# Altium integrated library Texas Instruments.IntLib: 126 symbols (part 1 of 2)
Pins are listed as number, name and electrical type; pins without a type are passive.

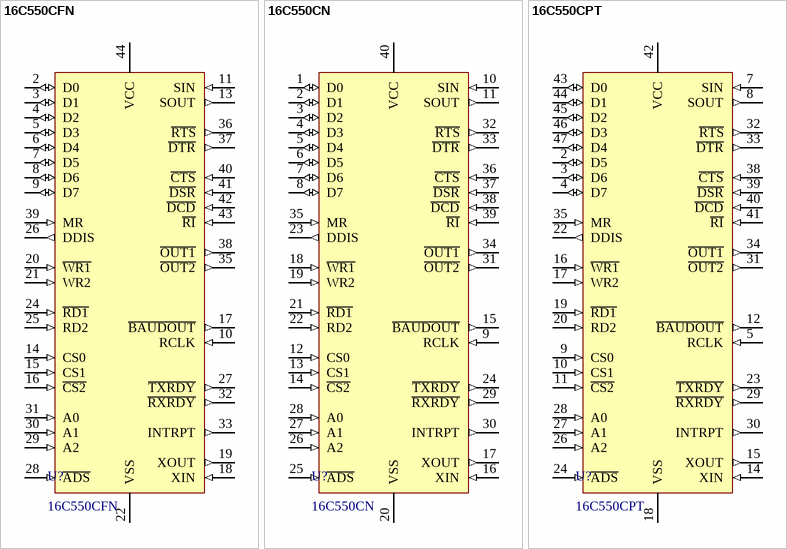
[diagram p0: symbols 16C550CFN to 16C550CPT]

## 16C550CFN
designator U?
Asynchronous Communications Element without Autoflow Control
footprint PLCC44
pins: 2 D0 (io), 3 D1 (io), 4 D2 (io), 5 D3 (io), 6 D4 (io), 7 D5 (io), 8 D6 (io), 9 D7 (io), 10 RCLK (in), 11 SIN (in), 13 SOUT (out), 14 CS0 (in), 15 CS1 (in), 16 ~{CS2} (in), 17 ~{BAUDOUT} (out), 18 XIN (in), 19 XOUT (out), 20 ~{WR1} (in), 21 WR2 (in), 22 VSS (power), 24 ~{RD1} (in), 25 RD2 (in), 26 DDIS (out), 27 ~{TXRDY} (out), 28 ~{ADS} (in), 29 A2 (in), 30 A1 (in), 31 A0 (in), 32 ~{RXRDY} (out), 33 INTRPT (out), 35 ~{OUT2} (out), 36 ~{RTS} (out), 37 ~{DTR} (out), 38 ~{OUT1} (out), 39 MR (in), 40 ~{CTS} (in), 41 ~{DSR} (in), 42 ~{DCD} (in), 43 ~{RI} (in), 44 VCC (power)

## 16C550CN
designator U?
Asynchronous Communications Element without Autoflow Control
footprint PDIP40
pins: 1 D0 (io), 2 D1 (io), 3 D2 (io), 4 D3 (io), 5 D4 (io), 6 D5 (io), 7 D6 (io), 8 D7 (io), 9 RCLK (in), 10 SIN (in), 11 SOUT (out), 12 CS0 (in), 13 CS1 (in), 14 ~{CS2} (in), 15 ~{BAUDOUT} (out), 16 XIN (in), 17 XOUT (out), 18 ~{WR1} (in), 19 WR2 (in), 20 VSS (power), 21 ~{RD1} (in), 22 RD2 (in), 23 DDIS (out), 24 ~{TXRDY} (out), 25 ~{ADS} (in), 26 A2 (in), 27 A1 (in), 28 A0 (in), 29 ~{RXRDY} (out), 30 INTRPT (out), 31 ~{OUT2} (out), 32 ~{RTS} (out), 33 ~{DTR} (out), 34 ~{OUT1} (out), 35 MR (in), 36 ~{CTS} (in), 37 ~{DSR} (in), 38 ~{DCD} (in), 39 ~{RI} (in), 40 VCC (power)

## 16C550CPT
designator U?
Asynchronous Communications Element without Autoflow Control
footprint LQFP48 - TL16C550CPT
pins: 2 D5 (io), 3 D6 (io), 4 D7 (io), 5 RCLK (in), 7 SIN (in), 8 SOUT (out), 9 CS0 (in), 10 CS1 (in), 11 ~{CS2} (in), 12 ~{BAUDOUT} (out), 14 XIN (in), 15 XOUT (out), 16 ~{WR1} (in), 17 WR2 (in), 18 VSS (power), 19 ~{RD1} (in), 20 RD2 (in), 22 DDIS (out), 23 ~{TXRDY} (out), 24 ~{ADS} (in), 26 A2 (in), 27 A1 (in), 28 A0 (in), 29 ~{RXRDY} (out), 30 INTRPT (out), 31 ~{OUT2} (out), 32 ~{RTS} (out), 33 ~{DTR} (out), 34 ~{OUT1} (out), 35 MR (in), 38 ~{CTS} (in), 39 ~{DSR} (in), 40 ~{DCD} (in), 41 ~{RI} (in), 42 VCC (power), 43 D0 (io), 44 D1 (io), 45 D2 (io), 46 D3 (io), 47 D4 (io)


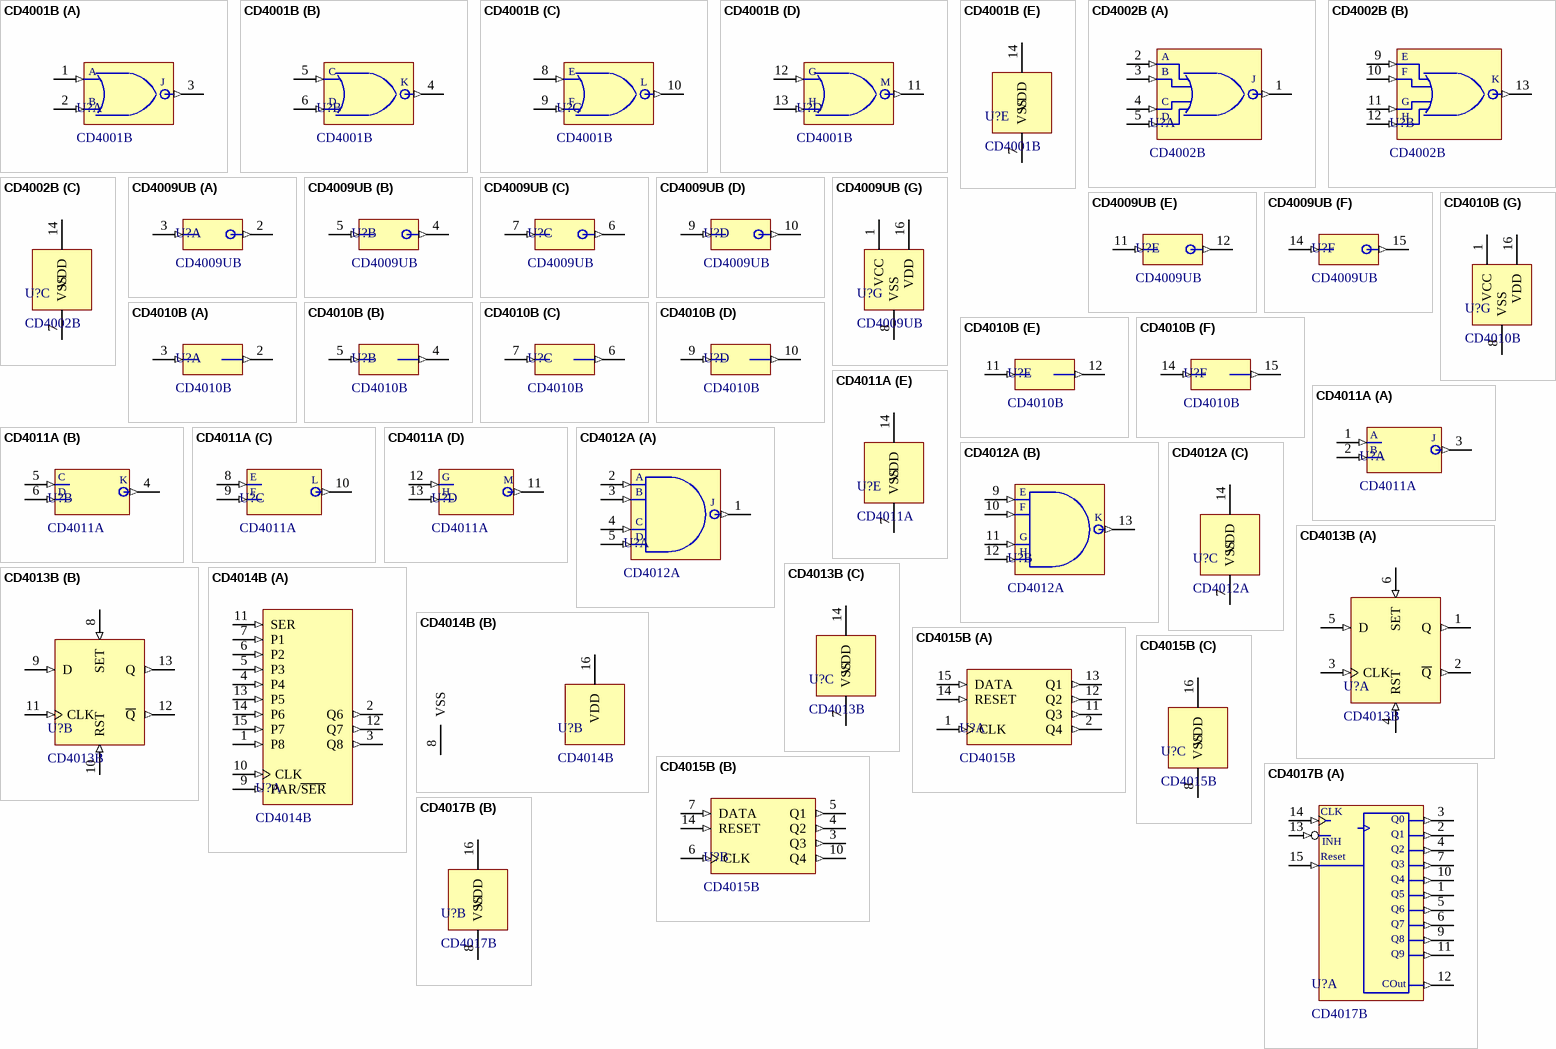
[diagram p1: symbols CD4001B to CD4017B]

## CD4001B
designator U?
Quad 2-Input CMOS NOR Gates
footprint CDIP14
footprint SOIC14
part A pins: 1 A (in), 2 B (in), 3 J (out)
part B pins: 4 K (out), 5 C (in), 6 D (in)
part C pins: 8 E (in), 9 F (in), 10 L (out)
part D pins: 11 M (out), 12 G (in), 13 H (in)
part E pins: 7 VSS (power), 14 VDD (power)

## CD4002B
designator U?
Dual 4-Input CMOS NOR Gates
footprint CDIP14
footprint SOIC14
part A pins: 1 J (out), 2 A (in), 3 B (in), 4 C (in), 5 D (in)
part B pins: 9 E (in), 10 F (in), 11 G (in), 12 H (in), 13 K (out)
part C pins: 7 VSS (power), 14 VDD (power)

## CD4009UB
designator U?
CMOS Hex Buffers/Converters Inverting Type
footprint PDIP16
footprint SOIC16
footprint TSSOP16
part A pins: 2 Y (out), 3 A (in)
part B pins: 4 Y (out), 5 A (in)
part C pins: 6 Y (out), 7 A (in)
part D pins: 9 A (in), 10 Y (out)
part E pins: 11 A (in), 12 Y (out)
part F pins: 14 A (in), 15 Y (out)
part G pins: 1 VCC (power), 8 VSS (power), 16 VDD (power)

## CD4010B
designator U?
CMOS Hex Buffers/Converters Non-Inverting Type
footprint PDIP16
footprint SOIC16
footprint TSSOP16
part A pins: 2 Y (out), 3 A (in)
part B pins: 4 Y (out), 5 A (in)
part C pins: 6 Y (out), 7 A (in)
part D pins: 9 A (in), 10 Y (out)
part E pins: 11 A (in), 12 Y (out)
part F pins: 14 A (in), 15 Y (out)
part G pins: 1 VCC (power), 8 VSS (power), 16 VDD (power)

## CD4011A
designator U?
Quad 2-Input CMOS NAND Gates
footprint CDIP14
footprint SOIC14
footprint TSSOP14
part A pins: 1 A (in), 2 B (in), 3 J (out)
part B pins: 4 K (out), 5 C (in), 6 D (in)
part C pins: 8 E (in), 9 F (in), 10 L (out)
part D pins: 11 M (out), 12 G (in), 13 H (in)
part E pins: 7 VSS (power), 14 VDD (power)

## CD4012A
designator U?
Dual 4-Input CMOS NAND Gates
footprint CDIP14
footprint SOIC14
footprint TSSOP14
part A pins: 1 J (out), 2 A (in), 3 A (in), 4 C (in), 5 D (in)
part B pins: 9 E (in), 10 F (in), 11 G (in), 12 H (in), 13 K (out)
part C pins: 7 VSS (power), 14 VDD (power)
part A text: B

## CD4013B
designator U?
CMOS Dual D-Type Flip-Flop
footprint CDIP14
footprint SOIC14
footprint TSSOP14
part A pins: 1 Q (out), 2 ~{Q} (out), 3 CLK (in), 4 RST (in), 5 D (in), 6 SET (in)
part B pins: 8 SET (in), 9 D (in), 10 RST (in), 11 CLK (in), 12 ~{Q} (out), 13 Q (out)
part C pins: 7 VSS (power), 14 VDD (power)

## CD4014B
designator U?
CMOS 8-Stage Static Shift Registers
footprint PDIP16
footprint SOIC16
footprint TSSOP16
part A pins: 1 P8 (in), 2 Q6 (out), 3 Q8 (out), 4 P4 (in), 5 P3 (in), 6 P2 (in), 7 P1 (in), 9 PAR/~{SER} (in), 10 CLK (in), 11 SER (in), 12 Q7 (out), 13 P5 (in), 14 P6 (in), 15 P7 (in)
part B pins: 8 VSS (power), 16 VDD (power)

## CD4015B
designator U?
CMOS Dual 4-Stage Static Shift Register
footprint PDIP16
footprint SOIC16
footprint TSSOP16
part A pins: 1 CLK (in) "Clock", 2 Q4 (out), 11 Q3 (out), 12 Q2 (out), 13 Q1 (out), 14 RESET (in) "Clock Inhibit", 15 DATA (in) "Reset"
part B pins: 3 Q3 (out), 4 Q2 (out), 5 Q1 (out), 6 CLK (in) "Clock", 7 DATA (in) "Reset", 10 Q4 (out), 14 RESET (in) "Clock Inhibit"
part C pins: 8 VSS (power), 16 VDD (power)

## CD4017B
designator U?
Decade Counter with 10 Decoded Outputs
footprint PDIP16
footprint SOIC16
footprint TSSOP16
part A pins: 1 Q5 (out), 2 Q1 (out), 3 Q0 (out), 4 Q2 (out), 5 Q6 (out), 6 Q7 (out), 7 Q3 (out), 9 Q8 (out), 10 Q4 (out), 11 Q9 (out), 12 COUT (out) "Carry Out", 13 CLKINH (in) "Clock Inhibit", 14 CLK (in) "Clock", 15 RST (in) "Reset"
part B pins: 8 VSS (power), 16 VDD (power)
part A text: INH; Reset; COut

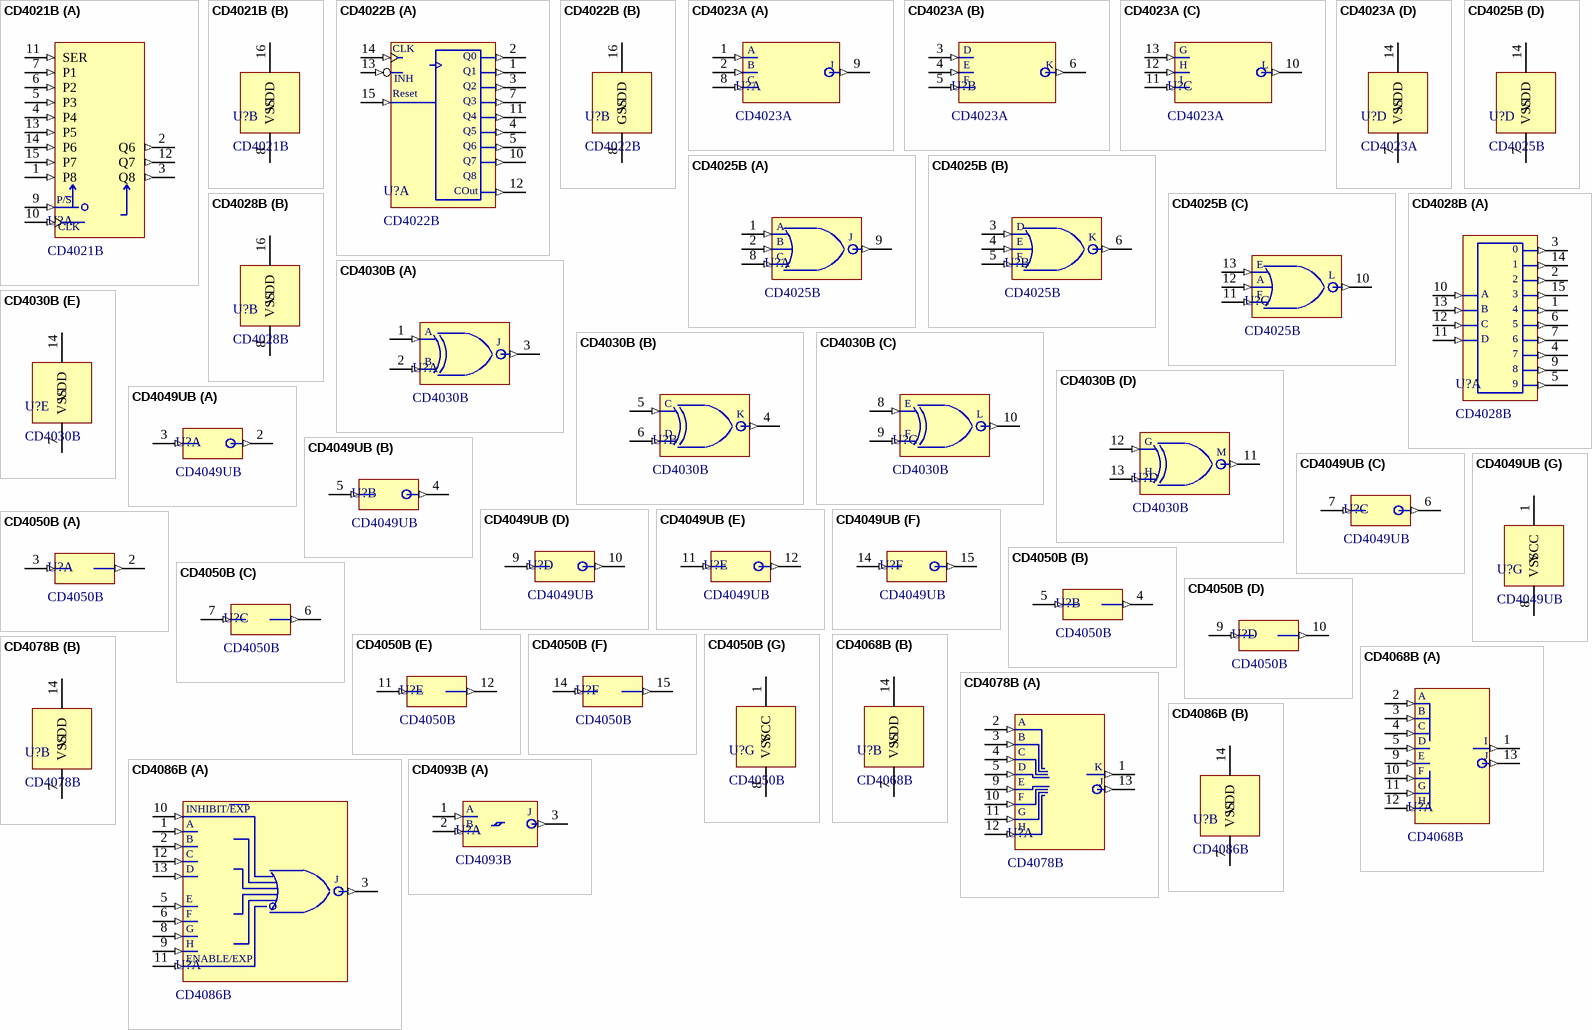
[diagram p2: symbols CD4021B to CD4093B]

## CD4021B
designator U?
CMOS 8-Stage Static Shift Registers
footprint PDIP16
footprint SOIC16
footprint TSSOP16
part A pins: 1 P8 (in), 2 Q6 (out), 3 Q8 (out), 4 P4 (in), 5 P3 (in), 6 P2 (in), 7 P1 (in), 9 PAR/~{SER} (in), 10 CLK (in), 11 SER (in), 12 Q7 (out), 13 P5 (in), 14 P6 (in), 15 P7 (in)
part B pins: 8 VSS (power), 16 VDD (power)
part A text: P/S

## CD4022B
designator U?
Octal Counter with 8 Decoded Outputs
footprint PDIP16
footprint SOIC16
footprint TSSOP16
part A pins: 1 Q1 (out), 2 Q0 (out), 3 Q2 (out), 4 Q5 (out), 5 Q6 (out), 7 Q3 (out), 10 Q7 (out), 11 Q4 (out), 12 COUT (out) "Carry Out", 13 CLKINH (in) "Clock Inhibit", 14 CLK (in) "Clock", 15 RST (in) "Reset"
part B pins: 8 GSS (power), 16 VDD (power)
part A text: INH; Reset; Q8; COut

## CD4023A
designator U?
Triple 3-Input CMOS NAND Gates
footprint CDIP14
footprint SOIC14
footprint TSSOP14
part A pins: 1 A (in), 2 B (in), 8 C (in), 9 J (out)
part B pins: 3 D (in), 4 E (in), 5 F (in), 6 K (out)
part C pins: 10 L (out), 11 I (in), 12 H (in), 13 G (in)
part D pins: 7 VSS (power), 14 VDD (power)

## CD4025B
designator U?
Triple 3-Input CMOS NOR Gates
footprint CDIP14
footprint SOIC14
part A pins: 1 A (in), 2 B (in), 8 C (in), 9 J (out)
part B pins: 3 D (in), 4 E (in), 5 F (in), 6 K (out)
part C pins: 10 L (out), 11 I (in), 12 H (in), 13 G (in)
part D pins: 7 VSS (power), 14 VDD (power)

## CD4028B
designator U?
BCD-to-Decimal Decoder
footprint PDIP16
footprint SOIC16
footprint TSSOP16
part A pins: 1 4 (out), 2 (out), 3 0 (out), 4 7 (out), 5 9 (out), 6 5 (out), 7 6 (out), 9 8 (out), 10 A (in), 11 D (in), 12 C (in), 13 B (in), 14 1 (out), 15 3 (out)
part B pins: 8 VSS (power), 16 VDD (power)

## CD4030B
designator U?
Quad 2-Input CMOS Exclusive-OR Gate
footprint CDIP14
footprint SOIC14
footprint TSSOP14
part A pins: 1 A (in), 2 B (in), 3 J (out)
part B pins: 4 K (out), 5 C (in), 6 D (in)
part C pins: 8 E (in), 9 F (in), 10 L (out)
part D pins: 11 M (out), 12 G (in), 13 H (in)
part E pins: 7 VSS (power), 14 VDD (power)

## CD4049UB
designator U?
CMOS Hex Buffers/Converters Inverting Type
footprint PDIP16
footprint SOIC16
footprint TSSOP16
part A pins: 2 Y (out), 3 A (in)
part B pins: 4 Y (out), 5 A (in)
part C pins: 6 Y (out), 7 A (in)
part D pins: 9 A (in), 10 Y (out)
part E pins: 11 A (in), 12 Y (out)
part F pins: 14 A (in), 15 Y (out)
part G pins: 1 VCC (power), 8 VSS (power)

## CD4050B
designator U?
CMOS Hex Buffers/Converters Non-Inverting Type
footprint PDIP16
footprint SOIC16
footprint TSSOP16
part A pins: 2 Y (out), 3 A (in)
part B pins: 4 Y (out), 5 A (in)
part C pins: 6 Y (out), 7 A (in)
part D pins: 9 A (in), 10 Y (out)
part E pins: 11 A (in), 12 Y (out)
part F pins: 14 A (in), 15 Y (out)
part G pins: 1 VCC (power), 8 VSS (power)

## CD4068B
designator U?
CMOS 8-Input NAND/AND Gate
footprint CDIP14
footprint SOIC14
footprint TSSOP14
part A pins: 1 I (out), 2 A (in), 3 B (in), 4 C (in), 5 D (in), 9 E (in), 10 F (in), 11 G (in), 12 H (in), 13 J (out)
part B pins: 7 VSS (power), 14 VDD (power)

## CD4078B
designator U?
CMOS 8-Input NOR/OR Gate
footprint CDIP14
footprint SOIC14
footprint TSSOP14
part A pins: 1 K (out), 2 A (in), 3 B (in), 4 C (in), 5 D (in), 9 E (in), 10 F (in), 11 G (in), 12 H (in), 13 J (out)
part B pins: 7 VSS (power), 14 VDD (power)

## CD4086B
designator U?
CMOS Expandable 4-Wide 2-Input AND-OR-INVERT Gate
footprint CDIP14
footprint SOIC14
part A pins: 1 A (in), 2 B (in), 3 J (out), 5 E (in), 6 F (in), 8 G (in), 9 H (in), 10 INHIBIT/~{EXP} (in), 11 ENABLE/EXP (in), 12 C (in), 13 D (in)
part B pins: 7 VSS (power), 14 VDD (power)
part A text: INHIBIT/EXP

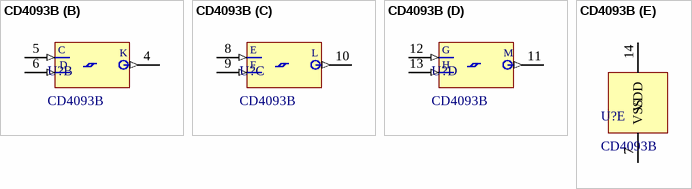
[diagram p3: symbol CD4093B]

## CD4093B
designator U?
CMOS Quad 2 Input NAND Schmitt-Triggers
footprint CDIP14
footprint SOIC14
footprint TSSOP14
part A pins: 1 A (in), 2 B (in), 3 J (out)
part B pins: 4 K (out), 5 C (in), 6 D (in)
part C pins: 8 E (in), 9 F (in), 10 L (out)
part D pins: 11 M (out), 12 G (in), 13 H (in)
part E pins: 7 VSS (power), 14 VDD (power)


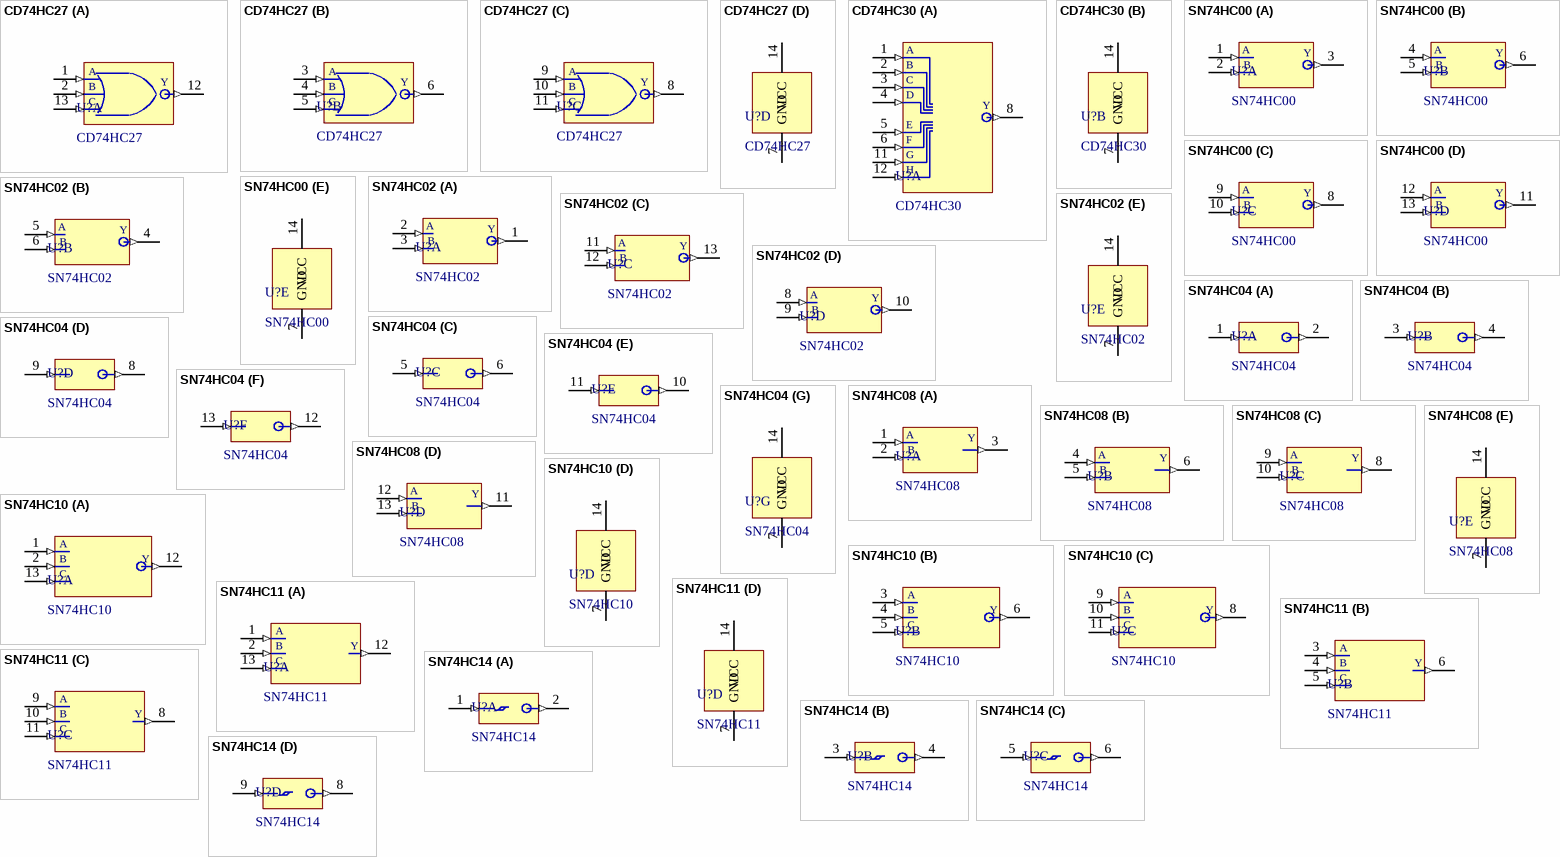
[diagram p4: symbols CD74HC27 to SN74HC14]

## CD74HC27
designator U?
Triple 3-Input NOR Gate
footprint CDIP14
footprint SOIC14
part A pins: 1 A (in), 2 B (in), 12 Y (out), 13 C (in)
part B pins: 3 A (in), 4 B (in), 5 C (in), 6 Y (out)
part C pins: 8 Y (out), 9 A (in), 10 B (in), 11 C (in)
part D pins: 7 GND (power), 14 VCC (power)

## CD74HC30
designator U?
8-Input NAND Gate
footprint CDIP14
footprint SOIC14
footprint TSSOP14
part A pins: 1 A (in), 2 B (in), 3 C (in), 4 D (in), 5 E (in), 6 F (in), 8 Y (out), 11 G (in), 12 H (in)
part B pins: 7 GND (power), 14 VCC (power)

## SN74HC00
designator U?
Quadruple 2-Input Positive-NAND Gates
footprint CDIP14
footprint SOIC14
footprint TSSOP14
part A pins: 1 A (in), 2 B (in), 3 Y (out)
part B pins: 4 A (in), 5 B (in), 6 Y (out)
part C pins: 8 Y (out), 9 A (in), 10 B (in)
part D pins: 11 Y (out), 12 A (in), 13 B (in)
part E pins: 7 GND (power), 14 VCC (power)

## SN74HC02
designator U?
Quadruple 2-Input Positive-NOR Gates
footprint CDIP14
footprint SOIC14
footprint TSSOP14
part A pins: 1 Y (out), 2 A (in), 3 B (in)
part B pins: 4 Y (out), 5 A (in), 6 B (in)
part C pins: 11 A (in), 12 B (in), 13 Y (out)
part D pins: 8 A (in), 9 B (in), 10 Y (out)
part E pins: 7 GND (power), 14 VCC (power)

## SN74HC04
designator U?
Hex Inverters
footprint CDIP14
footprint SOIC14
footprint TSSOP14
part A pins: 1 A (in), 2 Y (out)
part B pins: 3 A (in), 4 Y (out)
part C pins: 5 A (in), 6 Y (out)
part D pins: 8 Y (out), 9 A (in)
part E pins: 10 Y (out), 11 A (in)
part F pins: 12 Y (out), 13 A (in)
part G pins: 7 GND (power), 14 VCC (power)

## SN74HC08
designator U?
Quadruple 2-Input Positive-AND Gates
footprint CDIP14
footprint SOIC14
footprint TSSOP14
part A pins: 1 A (in), 2 B (in), 3 Y (out)
part B pins: 4 A (in), 5 B (in), 6 Y (out)
part C pins: 8 Y (out), 9 A (in), 10 B (in)
part D pins: 11 Y (out), 12 A (in), 13 B (in)
part E pins: 7 GND (power), 14 VCC (power)

## SN74HC10
designator U?
Triple 3-Input Positive-NAND Gates
footprint CDIP14
footprint SOIC14
footprint TSSOP14
part A pins: 1 A (in), 2 B (in), 12 Y (out), 13 C (in)
part B pins: 3 A (in), 4 B (in), 5 C (in), 6 Y (out)
part C pins: 8 Y (out), 9 A (in), 10 B (in), 11 C (in)
part D pins: 7 GND (power), 14 VCC (power)

## SN74HC11
designator U?
Triple 3-Input Positive-AND Gates
footprint CDIP14
footprint SOIC14
footprint TSSOP14
part A pins: 1 A (in), 2 B (in), 12 Y (out), 13 C (in)
part B pins: 3 A (in), 4 B (in), 5 C (in), 6 Y (out)
part C pins: 8 Y (out), 9 A (in), 10 B (in), 11 C (in)
part D pins: 7 GND (power), 14 VCC (power)

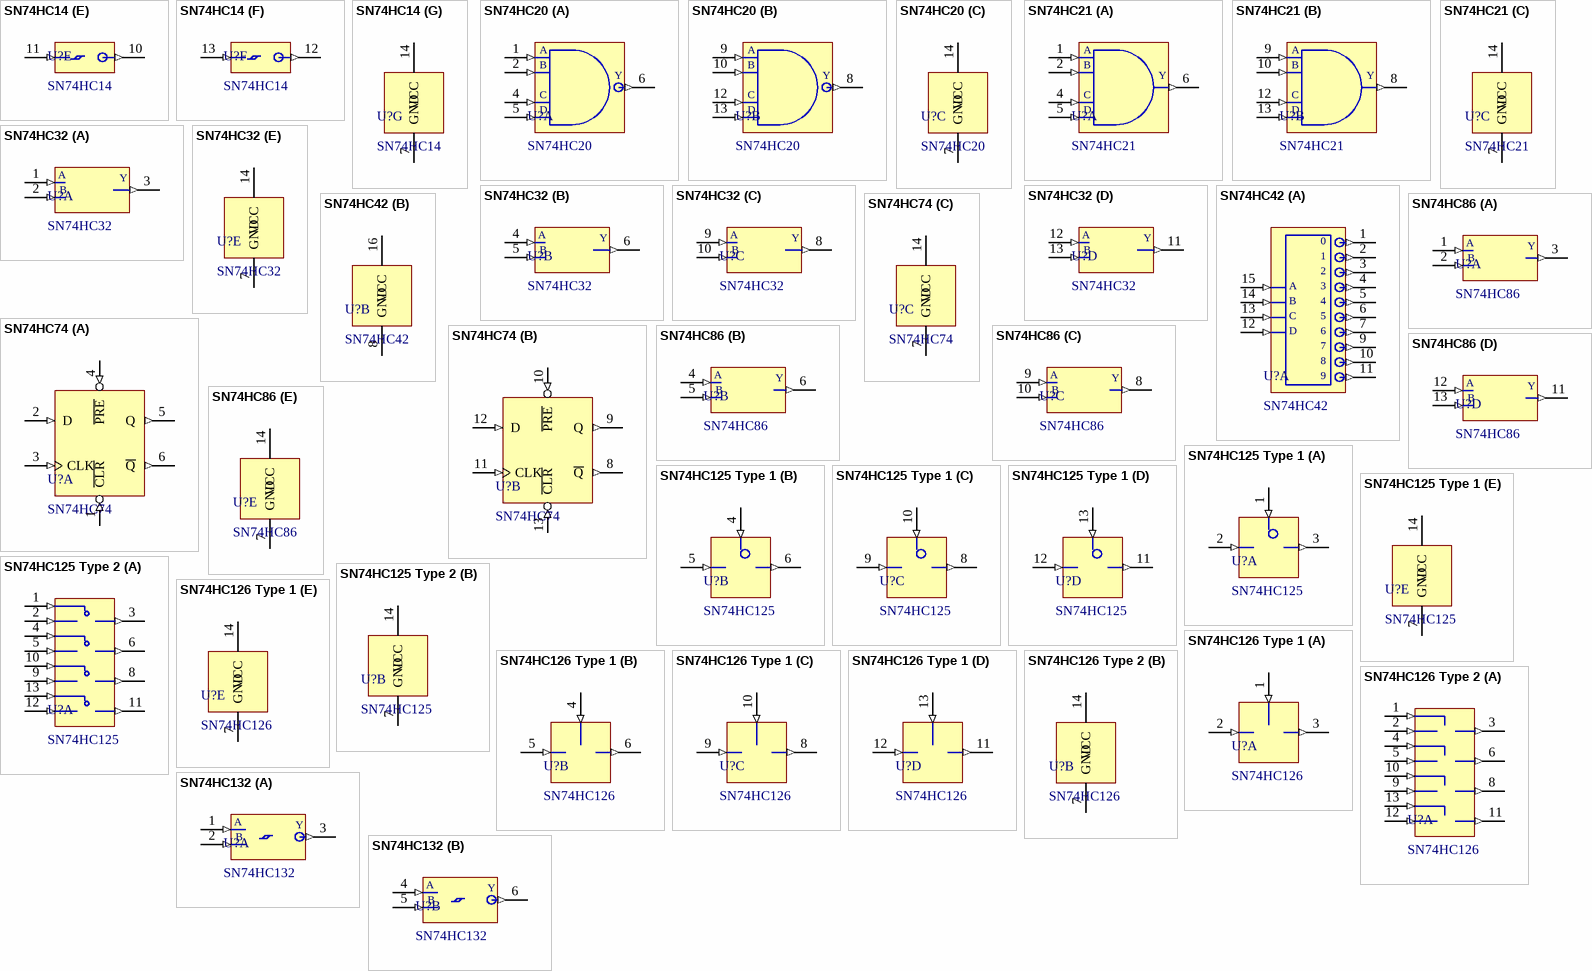
[diagram p5: symbols SN74HC14 to SN74HC132]

## SN74HC14
designator U?
Hex Schmitt-Trigger Inverters
footprint CDIP14
footprint SOIC14
footprint TSSOP14
part A pins: 1 A (in), 2 Y (out)
part B pins: 3 A (in), 4 Y (out)
part C pins: 5 A (in), 6 Y (out)
part D pins: 8 Y (out), 9 A (in)
part E pins: 10 Y (out), 11 A (in)
part F pins: 12 Y (out), 13 A (in)
part G pins: 7 GND (power), 14 VCC (power)

## SN74HC20
designator U?
Dual 4-Input Positive-NAND Gates
footprint CDIP14
footprint SOIC14
footprint TSSOP14
part A pins: 1 A (in), 2 A (in), 4 C (in), 5 D (in), 6 Y (out)
part B pins: 8 Y (out), 9 A (in), 10 A (in), 12 C (in), 13 D (in)
part C pins: 7 GND (power), 14 VCC (power)
part A text: B
part B text: B

## SN74HC21
designator U?
Dual 4-Input Positive-AND Gates
footprint CDIP14
footprint SOIC14
footprint TSSOP14
part A pins: 1 A (in), 2 A (in), 4 C (in), 5 D (in), 6 Y (out)
part B pins: 8 Y (out), 9 A (in), 10 A (in), 12 C (in), 13 D (in)
part C pins: 7 GND (power), 14 VCC (power)
part A text: B
part B text: B

## SN74HC32
designator U?
Quadruple 2-Input Positive-OR Gates
footprint CDIP14
footprint SOIC14
footprint TSSOP14
part A pins: 1 A (in), 2 B (in), 3 Y (out)
part B pins: 4 A (in), 5 B (in), 6 Y (out)
part C pins: 8 Y (out), 9 A (in), 10 B (in)
part D pins: 11 Y (out), 12 A (in), 13 B (in)
part E pins: 7 GND (power), 14 VCC (power)

## SN74HC42
designator U?
4-Lines to 10-Lines Decoder
footprint PDIP16
footprint SOIC16
part A pins: 1 0 (out), 2 1 (out), 3 2 (out), 4 3 (out), 5 4 (out), 6 5 (out), 7 6 (out), 9 7 (out), 10 8 (out), 11 9 (out), 12 D (in), 13 C (in), 14 B (in), 15 A (in)
part B pins: 8 GND (power), 16 VCC (power)

## SN74HC74
designator U?
Dual D-Type Positive-Edge-Triggered Flip-Flops With Clear and Preset
footprint CDIP14
footprint SOIC14
footprint TSSOP14
part A pins: 1 ~{CLR} (in), 2 D (in), 3 CLK (in), 4 ~{PRE} (in), 5 Q (out), 6 ~{Q} (out)
part B pins: 8 ~{Q} (out), 9 Q (out), 10 ~{PRE} (in), 11 CLK (in), 12 D (in), 13 ~{CLR} (in)
part C pins: 7 GND (power), 14 VCC (power)

## SN74HC86
designator U?
Quadruple 2-Input Exclusive-OR Gates
footprint CDIP14
footprint SOIC14
footprint TSSOP14
part A pins: 1 A (in), 2 B (in), 3 Y (out)
part B pins: 4 A (in), 5 B (in), 6 Y (out)
part C pins: 8 Y (out), 9 A (in), 10 B (in)
part D pins: 11 Y (out), 12 A (in), 13 B (in)
part E pins: 7 GND (power), 14 VCC (power)

## SN74HC125 Type 1
designator U?, comment SN74HC125
Quadruple Bus Buffer Gates With 3-State Outputs
footprint CDIP14
footprint SOIC14
footprint TSSOP14
part A pins: 1 ~{OE} (in), 2 A (in), 3 Y (out)
part B pins: 4 ~{OE} (in), 5 A (in), 6 Y (out)
part C pins: 8 Y (out), 9 A (in), 10 ~{OE} (in)
part D pins: 11 Y (out), 12 A (in), 13 ~{OE} (in)
part E pins: 7 GND (power), 14 VCC (power)

## SN74HC125 Type 2
designator U?, comment SN74HC125
Quadruple Bus Buffer Gates With 3-State Outputs
footprint CDIP14
footprint SOIC14
footprint TSSOP14
part A pins: 1 ~{OE} (in), 2 A (in), 3 Y (out), 4 ~{OE} (in), 5 A (in), 6 Y (out), 8 Y (out), 9 A (in), 10 ~{OE} (in), 11 Y (out), 12 A (in), 13 ~{OE} (in)
part B pins: 7 GND (power), 14 VCC (power)

## SN74HC126 Type 1
designator U?, comment SN74HC126
Quadruple Bus Buffer Gates With 3-State Outputs
footprint CDIP14
footprint SOIC14
footprint TSSOP14
part A pins: 1 ~{OE} (in), 2 A (in), 3 Y (out)
part B pins: 4 ~{OE} (in), 5 A (in), 6 Y (out)
part C pins: 8 Y (out), 9 A (in), 10 ~{OE} (in)
part D pins: 11 Y (out), 12 A (in), 13 ~{OE} (in)
part E pins: 7 GND (power), 14 VCC (power)

## SN74HC126 Type 2
designator U?, comment SN74HC126
Quadruple Bus Buffer Gates With 3-State Outputs
footprint CDIP14
footprint SOIC14
footprint TSSOP14
part A pins: 1 ~{OE} (in), 2 A (in), 3 Y (out), 4 ~{OE} (in), 5 A (in), 6 Y (out), 8 Y (out), 9 A (in), 10 ~{OE} (in), 11 Y (out), 12 A (in), 13 ~{OE} (in)
part B pins: 7 GND (power), 14 VCC (power)

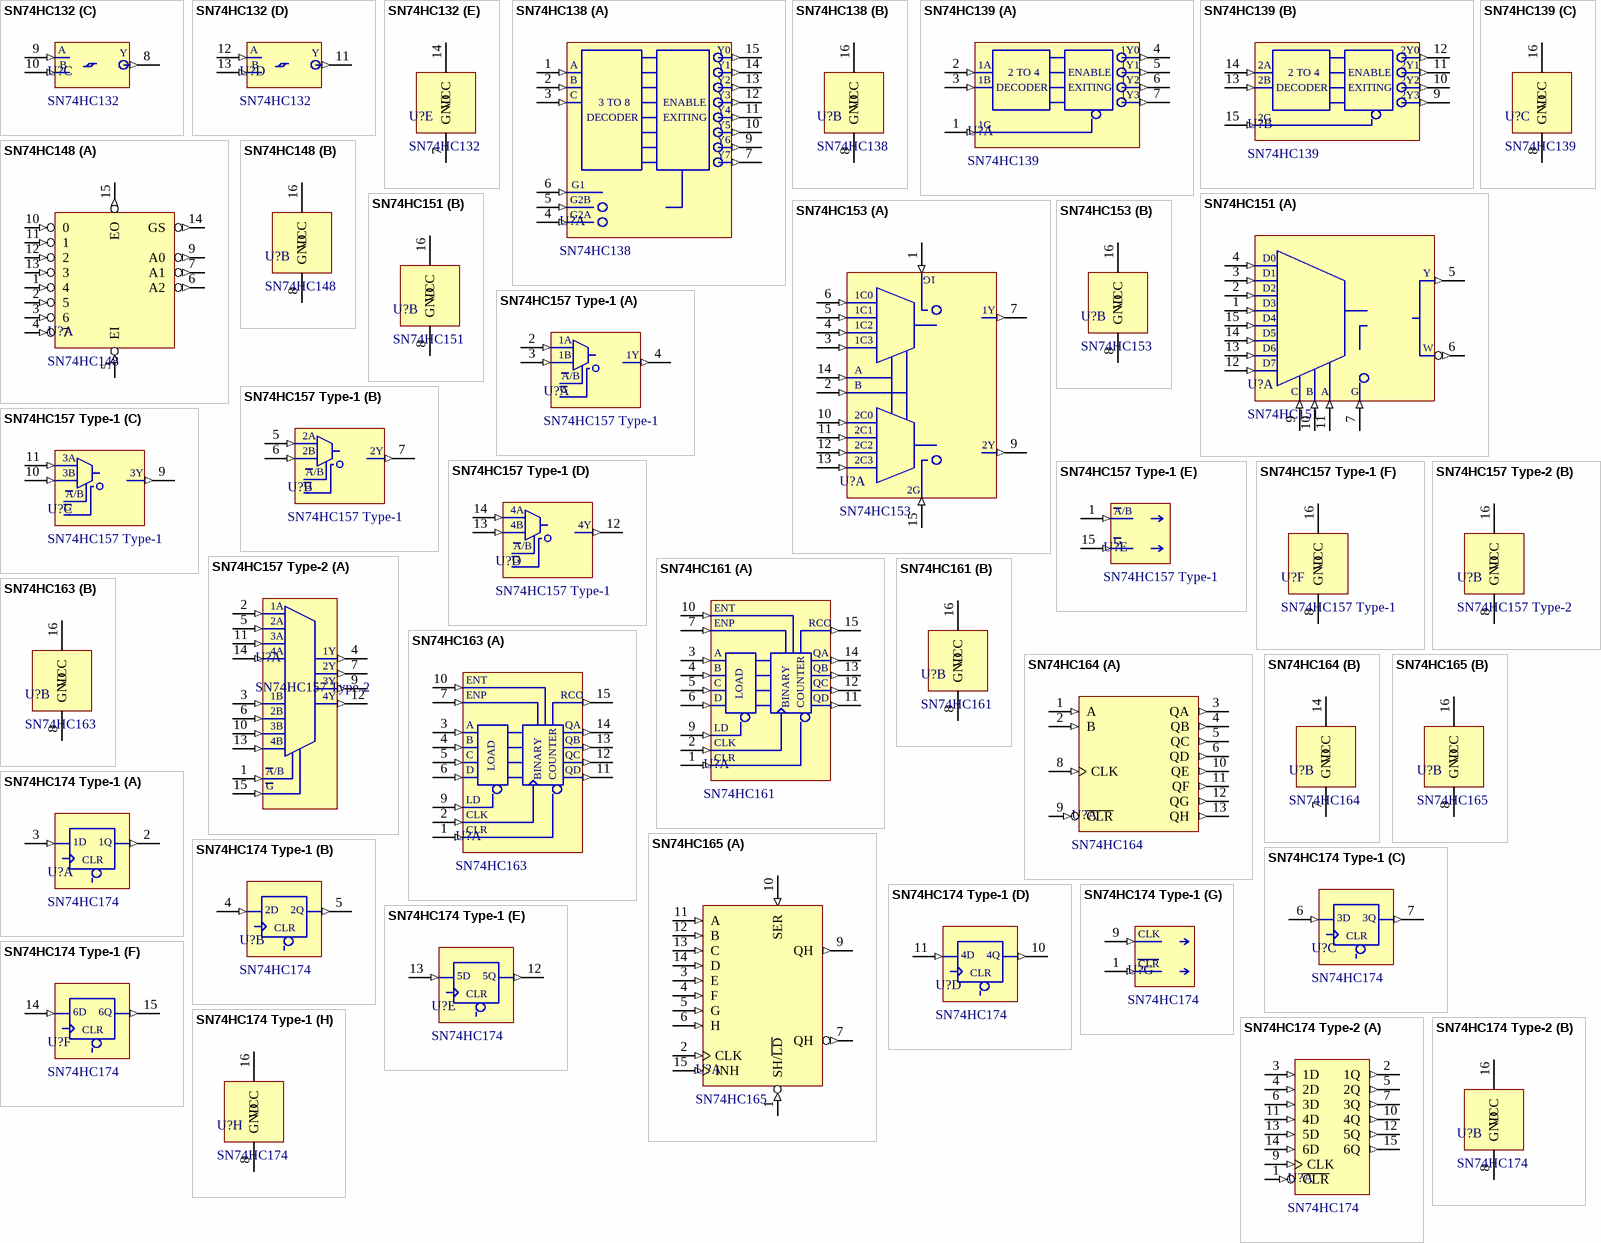
[diagram p6: symbols SN74HC132 to SN74HC174 Type-2]

## SN74HC132
designator U?
Quadruple Positive-NAND Gates With Schmitt-Trigger Inputs
footprint CDIP14
footprint SOIC14
footprint TSSOP14
part A pins: 1 A (in), 2 B (in), 3 Y (out)
part B pins: 4 A (in), 5 B (in), 6 Y (out)
part C pins: 8 Y (out), 9 A (in), 10 B (in)
part D pins: 11 Y (out), 12 A (in), 13 B (in)
part E pins: 7 GND (power), 14 VCC (power)

## SN74HC138
designator U?
3-Line To 8-Line Decoders/Demultiplexers
footprint PDIP16
footprint SOIC16
footprint TSSOP16
part A pins: 1 A (in), 2 B (in), 3 C (in), 4 G2A (in), 5 G2B (in), 6 G1 (in), 7 Y7 (out), 9 Y6 (out), 10 Y5 (out), 11 Y4 (out), 12 Y3 (out), 13 Y2 (out), 14 Y1 (out), 15 Y0 (out)
part B pins: 8 GND (power), 16 VCC (power)
part A text: 3 TO 8; ENABLE; DECODER; EXITING

## SN74HC139
designator U?
Dual 2-Line to 4-Line Decoders/Demultiplexers
footprint PDIP16
footprint SOIC16
footprint TSSOP16
part A pins: 1 1G (in), 2 1A (in), 3 1B (in), 4 1Y0 (out), 5 1Y1 (out), 6 1Y2 (out), 7 1Y3 (out)
part B pins: 9 2Y3 (out), 10 2Y2 (out), 11 2Y1 (out), 12 2Y0 (out), 13 2B (in), 14 2A (in), 15 2G (in)
part C pins: 8 GND (power), 16 VCC (power)
part A text: 2 TO 4; ENABLE; DECODER; EXITING
part B text: 2 TO 4; ENABLE; DECODER; EXITING

## SN74HC148
designator U?
8-Line To 3-Line Priority Encoders
footprint PDIP16
footprint SOIC16
part A pins: 1 4 (in), 2 5 (in), 3 6 (in), 4 7 (in), 5 EI (in), 6 A2 (out), 7 A1 (out), 9 A0 (out), 10 0 (in), 11 1 (in), 12 2 (in), 13 3 (in), 14 GS (out), 15 EO (out)
part B pins: 8 GND (power), 16 VCC (power)

## SN74HC151
designator U?
8-Line To 1-Line Data Selectors/Mutiplexers
footprint PDIP16
footprint SOIC16
footprint TSSOP16
part A pins: 1 D3 (in), 2 D2 (in), 3 D1 (in), 4 D0 (in), 5 Y (out), 6 W (out), 7 G (in), 9 C (in), 10 B (in), 11 A (in), 12 D7 (in), 13 D6 (in), 14 D5 (in), 15 D4 (in)
part B pins: 8 GND (power), 16 VCC (power)

## SN74HC153
designator U?
Dual 4-Line To 1-Line Data Selectors/Mutiplexers
footprint PDIP16
footprint SOIC16
footprint TSSOP16
part A pins: 1 1G (in), 2 B (in), 3 1C3 (in), 4 1C2 (in), 5 1C1 (in), 6 1C0 (in), 7 1Y (out), 9 2Y (out), 10 2C0 (in), 11 2C1 (in), 12 2C2 (in), 13 2C3 (in), 14 A (in), 15 2G (in)
part B pins: 8 GND (power), 16 VCC (power)

## SN74HC157 Type-1
designator U?
Quadruple 2-Line To 1-Line Data Selectors/Mutiplexers
footprint PDIP16
footprint SOIC16
footprint TSSOP16
part A pins: 2 1A (in), 3 1B (in), 4 1Y (out)
part B pins: 5 2A (in), 6 2B (in), 7 2Y (out)
part C pins: 9 3Y (out), 10 3B (in), 11 3A (in)
part D pins: 12 4Y (out), 13 4B (in), 14 4A (in)
part E pins: 1 A/B (in), 15 G (in)
part F pins: 8 GND (power), 16 VCC (power)

## SN74HC157 Type-2
designator U?
Quadruple 2-Line To 1-Line Data Selectors/Mutiplexers
footprint PDIP16
footprint SOIC16
footprint TSSOP16
part A pins: 1 A/B (in), 2 1A (in), 3 1B (in), 4 1Y (out), 5 2A (in), 6 2B (in), 7 2Y (out), 9 3Y (out), 10 3B (in), 11 3A (in), 12 4Y (out), 13 4B (in), 14 4A (in), 15 G (in)
part B pins: 8 GND (power), 16 VCC (power)

## SN74HC161
designator U?
4-Bit Synchronous Binary Counters
footprint PDIP16
footprint SOIC16
footprint TSSOP16
part A pins: 1 CLR (in), 2 CLK (in), 3 A (in), 4 B (in), 5 C (in), 6 D (in), 7 ENP (in), 9 LOAD (in), 10 ENT (in), 11 QD (out), 12 QC (out), 13 QB (out), 14 QA (out), 15 RCO (out)
part B pins: 8 GND (power), 16 VCC (power)
part A text: BINARY; COUNTER; LD

## SN74HC163
designator U?
4-Bit Synchronous Binary Counters
footprint PDIP16
footprint SOIC16
footprint TSSOP16
part A pins: 1 CLR (in), 2 CLK (in), 3 A (in), 4 B (in), 5 C (in), 6 D (in), 7 ENP (in), 9 LOAD (in), 10 ENT (in), 11 QD (out), 12 QC (out), 13 QB (out), 14 QA (out), 15 RCO (out)
part B pins: 8 GND (power), 16 VCC (power)
part A text: BINARY; COUNTER; LD

## SN74HC164
designator U?
8-Bit Parallel-Out Serial Shift Registers
footprint CDIP14
footprint SOIC14
footprint TSSOP14
part A pins: 1 A (in), 2 B (in), 3 QA (out), 4 QB (out), 5 QC (out), 6 QD (out), 8 CLK (in), 9 ~{CLR} (in), 10 QE (out), 11 QF (out), 12 QG (out), 13 QH (out)
part B pins: 7 GND (power), 14 VCC (power)

## SN74HC165
designator U?
8-Bit Parallel-Load Shift Registers
footprint PDIP16
footprint SOIC16
footprint TSSOP16
part A pins: 1 SH/~{LD} (in), 2 CLK (in), 3 E (in), 4 F (in), 5 G (in), 6 H (in), 7 QH (out), 9 QH (out), 10 SER (in), 11 A (in), 12 B (in), 13 C (in), 14 D (in), 15 INH (in)
part B pins: 8 GND (power), 16 VCC (power)

## SN74HC174 Type-1
designator U?, comment SN74HC174
Hex D-Type Flip-Flop With Clear
footprint PDIP16
footprint SOIC16
footprint TSSOP16
part A pins: 2 1Q (out), 3 1D (in)
part B pins: 4 2D (in), 5 2Q (out)
part C pins: 6 3D (in), 7 3Q (out)
part D pins: 10 4Q (out), 11 4D (in)
part E pins: 12 5Q (out), 13 5D (in)
part F pins: 14 6D (in), 15 6Q (out)
part G pins: 1 ~{CLR} (in), 9 CLK (in)
part H pins: 8 GND (power), 16 VCC (power)
part A text: CLR
part B text: CLR
part C text: CLR
part D text: CLR
part E text: CLR
part F text: CLR
part G text: CLR

## SN74HC174 Type-2
designator U?, comment SN74HC174
Hex D-Type Flip-Flop With Clear
footprint PDIP16
footprint SOIC16
footprint TSSOP16
part A pins: 1 ~{CLR} (in), 2 1Q (out), 3 1D (in), 4 2D (in), 5 2Q (out), 6 3D (in), 7 3Q (out), 9 CLK (in), 10 4Q (out), 11 4D (in), 12 5Q (out), 13 5D (in), 14 6D (in), 15 6Q (out)
part B pins: 8 GND (power), 16 VCC (power)

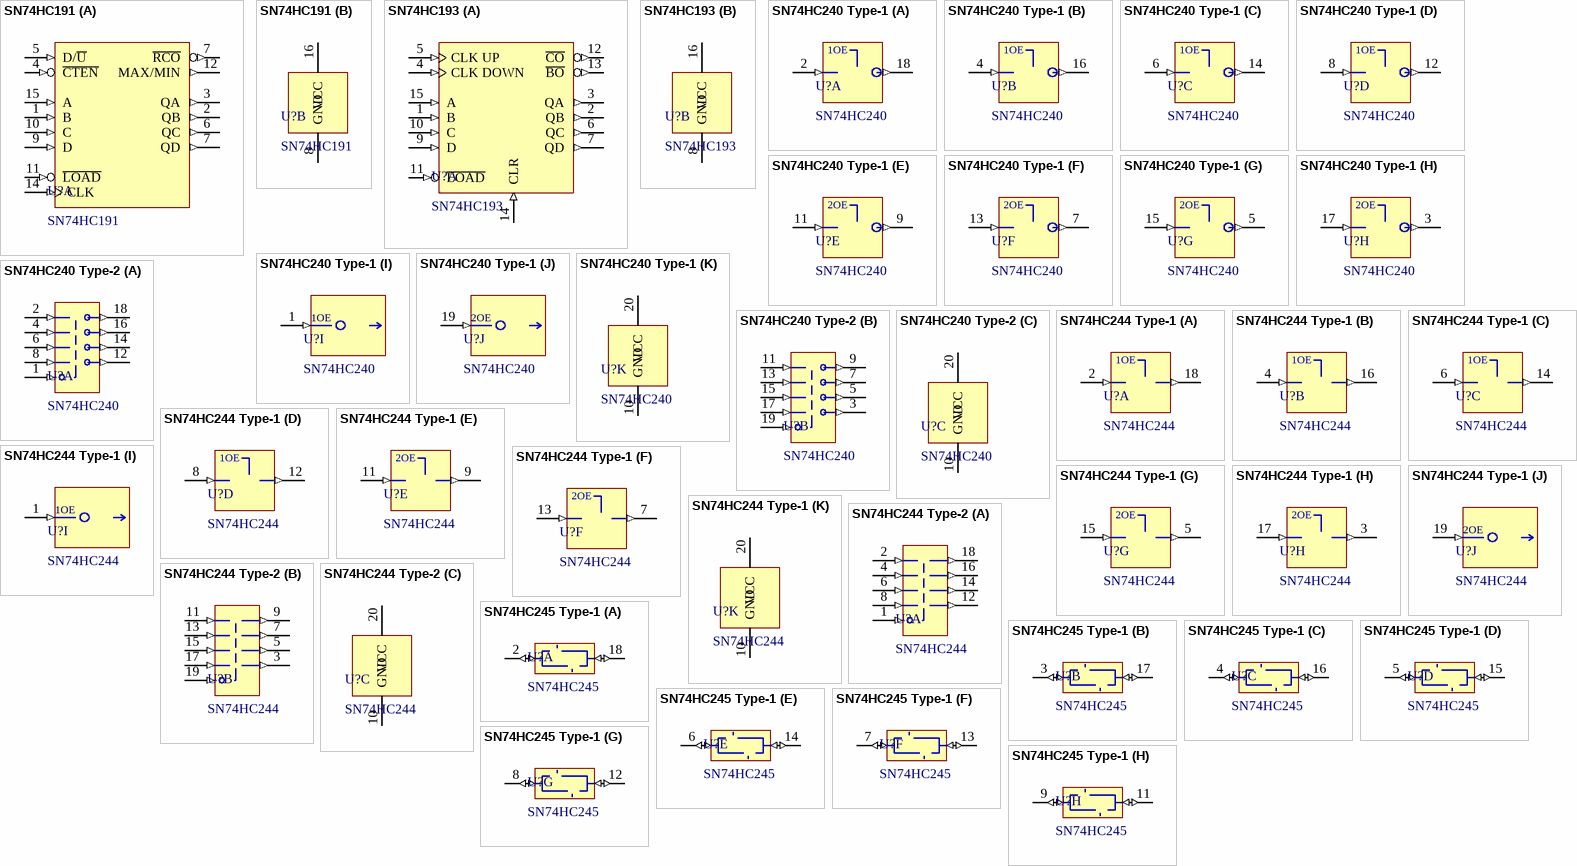
[diagram p7: symbols SN74HC191 to SN74HC245 Type-1]

## SN74HC191
designator U?
4-Bit Synchronous Up/Down Binary Counters
footprint PDIP16
footprint SOIC16
part A pins: 1 B (in), 2 QB (out), 3 QA (out), 4 ~{CTEN} (in), 5 D/~{U} (in), 6 QC (out), 7 ~{RCO} (out), 7 QD (out), 9 D (in), 10 C (in), 11 ~{LOAD} (in), 12 MAX/MIN (out), 14 CLK (in), 15 A (in)
part B pins: 8 GND (power), 16 VCC (power)

## SN74HC193
designator U?
4-Bit Synchronous Up/Down Counters - Dual Clock with Clear
footprint PDIP16
footprint SOIC16
footprint TSSOP16
part A pins: 1 B (in), 2 QB (out), 3 QA (out), 4 CLK DOWN (in), 5 CLK UP (in), 6 QC (out), 7 QD (out), 9 D (in), 10 C (in), 11 ~{LOAD} (in), 12 ~{CO} (out), 13 ~{BO} (out), 14 CLR (in), 15 A (in)
part B pins: 8 GND (power), 16 VCC (power)

## SN74HC240 Type-1
designator U?, comment SN74HC240
Octal Buffers and Line Inverter Drivers With 3-State Outputs
footprint PDIP20
footprint SOIC20
part A pins: 2 1A1 (in), 18 1Y1 (out)
part B pins: 4 1A2 (in), 16 1Y2 (out)
part C pins: 6 1A3 (in), 14 1Y3 (out)
part D pins: 8 1A4 (in), 12 1Y4 (out)
part E pins: 9 2Y1 (out), 11 2A1 (in)
part F pins: 7 2Y2 (out), 13 2A2 (in)
part G pins: 5 2Y3 (out), 15 2A3 (in)
part H pins: 3 2Y4 (out), 17 2A4 (in)
part I pins: 1 OE1 (in)
part J pins: 19 OE1 (in)
part K pins: 10 GND (power), 20 VCC (power)
part A text: 1OE
part B text: 1OE
part C text: 1OE
part D text: 1OE
part E text: 2OE
part F text: 2OE
part G text: 2OE
part H text: 2OE
part I text: 1OE
part J text: 2OE

## SN74HC240 Type-2
designator U?, comment SN74HC240
Octal Buffers and Line Inverter Drivers With 3-State Outputs
footprint PDIP20
footprint SOIC20
part A pins: 1 OE1 (in), 2 1A1 (in), 4 1A2 (in), 6 1A3 (in), 8 1A4 (in), 12 1Y4 (out), 14 1Y3 (out), 16 1Y2 (out), 18 1Y1 (out)
part B pins: 3 2Y4 (out), 5 2Y3 (out), 7 2Y2 (out), 9 2Y1 (out), 11 2A1 (in), 13 2A2 (in), 15 2A3 (in), 17 2A4 (in), 19 OE1 (in)
part C pins: 10 GND (power), 20 VCC (power)

## SN74HC244 Type-1
designator U?, comment SN74HC244
Octal Buffers and Line Drivers With 3-State Outputs
footprint PDIP20
footprint SOIC20
part A pins: 2 1A1 (in), 18 1Y1 (out)
part B pins: 4 1A2 (in), 16 1Y2 (out)
part C pins: 6 1A3 (in), 14 1Y3 (out)
part D pins: 8 1A4 (in), 12 1Y4 (out)
part E pins: 9 2Y1 (out), 11 2A1 (in)
part F pins: 7 2Y2 (out), 13 2A2 (in)
part G pins: 5 2Y3 (out), 15 2A3 (in)
part H pins: 3 2Y4 (out), 17 2A4 (in)
part I pins: 1 1~{OE} (in)
part J pins: 19 2~{OE} (in)
part K pins: 10 GND (power), 20 VCC (power)
part A text: 1OE
part B text: 1OE
part C text: 1OE
part D text: 1OE
part E text: 2OE
part F text: 2OE
part G text: 2OE
part H text: 2OE
part I text: 1OE
part J text: 2OE

## SN74HC244 Type-2
designator U?, comment SN74HC244
Octal Buffers and Line Drivers With 3-State Outputs
footprint PDIP20
footprint SOIC20
part A pins: 1 1~{OE} (in), 2 1A1 (in), 4 1A2 (in), 6 1A3 (in), 8 1A4 (in), 12 1Y4 (out), 14 1Y3 (out), 16 1Y2 (out), 18 1Y1 (out)
part B pins: 3 2Y4 (out), 5 2Y3 (out), 7 2Y2 (out), 9 2Y1 (out), 11 2A1 (in), 13 2A2 (in), 15 2A3 (in), 17 2A4 (in), 19 2~{OE} (in)
part C pins: 10 GND (power), 20 VCC (power)

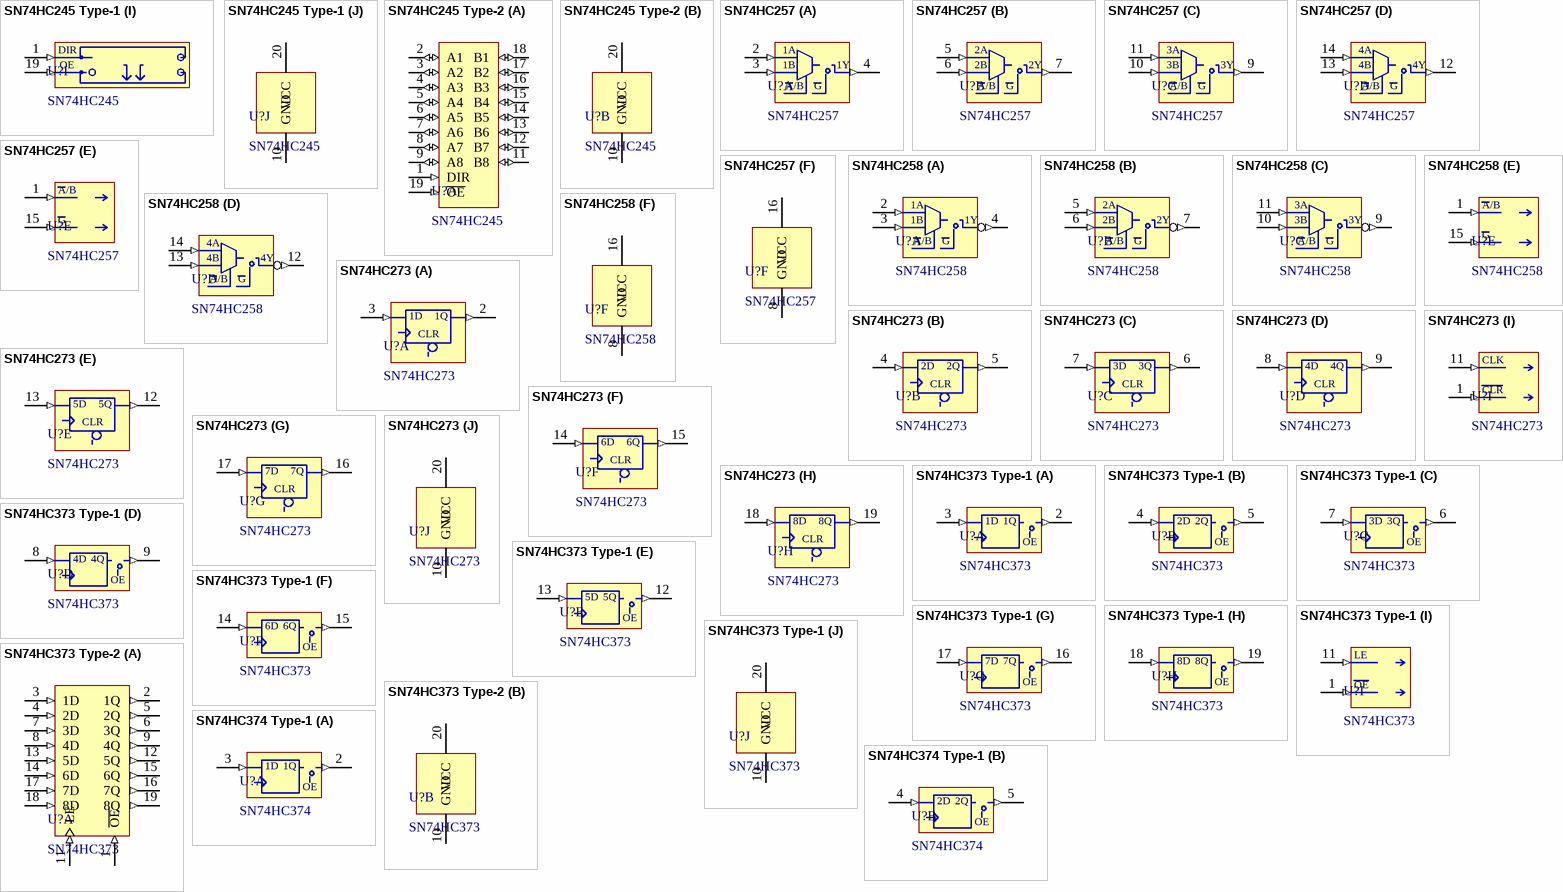
[diagram p8: symbols SN74HC245 Type-1 to SN74HC374 Type-1]

## SN74HC245 Type-1
designator U?, comment SN74HC245
Octal Bus Transceivers with 3-State Outputs
footprint PDIP20
footprint SOIC20
part A pins: 2 A1 (io), 18 B1 (io)
part B pins: 3 A2 (io), 17 B2 (io)
part C pins: 4 A3 (io), 16 B3 (io)
part D pins: 5 A4 (io), 15 B4 (io)
part E pins: 6 A5 (io), 14 B5 (io)
part F pins: 7 A6 (io), 13 B6 (io)
part G pins: 8 A7 (io), 12 B7 (io)
part H pins: 9 A8 (io), 11 B8 (io)
part I pins: 1 DIR (in), 19 ~{OE} (in)
part J pins: 10 GND (power), 20 VCC (power)
part I text: OE

## SN74HC245 Type-2
designator U?, comment SN74HC245
Octal Bus Transceivers with 3-State Outputs
footprint PDIP20
footprint SOIC20
part A pins: 1 DIR (in), 2 A1 (io), 3 A2 (io), 4 A3 (io), 5 A4 (io), 6 A5 (io), 7 A6 (io), 8 A7 (io), 9 A8 (io), 11 B8 (io), 12 B7 (io), 13 B6 (io), 14 B5 (io), 15 B4 (io), 16 B3 (io), 17 B2 (io), 18 B1 (io), 19 ~{OE} (in)
part B pins: 10 GND (power), 20 VCC (power)

## SN74HC257
designator U?
Quadruple 2-Line To 1-Line Data Selectors/Mutiplexers with 3-State Outputs
footprint PDIP16
footprint SOIC16
footprint TSSOP16
part A pins: 2 1A (in), 3 1B (in), 4 1Y (out)
part B pins: 5 2A (in), 6 2B (in), 7 2Y (out)
part C pins: 9 3Y (out), 10 3B (in), 11 3A (in)
part D pins: 12 4Y (out), 13 4B (in), 14 4A (in)
part E pins: 1 ~{A}/B (in), 15 ~{G} (in)
part F pins: 8 GND (power), 16 VCC (power)
part A text: A/B; G
part B text: A/B; G
part C text: A/B; G
part D text: A/B; G
part E text: A/B; G

## SN74HC258
designator U?
Quadruple 2-Line To 1-Line Data Selectors/Mutiplexers with 3-State Outputs
footprint PDIP16
footprint SOIC16
part A pins: 2 1A (in), 3 1B (in), 4 1Y (out)
part B pins: 5 2A (in), 6 2B (in), 7 2Y (out)
part C pins: 9 3Y (out), 10 3B (in), 11 3A (in)
part D pins: 12 4Y (out), 13 4B (in), 14 4A (in)
part E pins: 1 ~{A}/B (in), 15 ~{G} (in)
part F pins: 8 GND (power), 16 VCC (power)
part A text: A/B; G
part B text: A/B; G
part C text: A/B; G
part D text: A/B; G
part E text: A/B; G

## SN74HC273
designator U?
Octal D-Type Flip-Flops with Clear
footprint PDIP20
footprint SOIC20
part A pins: 2 1Q (out), 3 1D (in)
part B pins: 4 2D (in), 5 2Q (out)
part C pins: 6 3Q (out), 7 3D (in)
part D pins: 8 4D (in), 9 4Q (out)
part E pins: 12 5Q (out), 13 5D (in)
part F pins: 14 6D (in), 15 6Q (out)
part G pins: 16 7Q (out), 17 7D (in)
part H pins: 18 8D (in), 19 8Q (out)
part I pins: 1 ~{CLR} (in), 11 CLK (in)
part J pins: 10 GND (power), 20 VCC (power)
part A text: CLR
part B text: CLR
part C text: CLR
part D text: CLR
part E text: CLR
part F text: CLR
part G text: CLR
part H text: CLR
part I text: CLR

## SN74HC373 Type-1
designator U?, comment SN74HC373
Octal Transparent D-Type Latches with 3-State Outputs
footprint PDIP20
footprint SOIC20
part A pins: 2 1Q (out), 3 1D (in)
part B pins: 4 2D (in), 5 2Q (out)
part C pins: 6 3Q (out), 7 3D (in)
part D pins: 8 4D (in), 9 4Q (out)
part E pins: 12 5Q (out), 13 5D (in)
part F pins: 14 6D (in), 15 6Q (out)
part G pins: 16 7Q (out), 17 7D (in)
part H pins: 18 8D (in), 19 8Q (out)
part I pins: 1 ~{OE} (in), 11 LE (in)
part J pins: 10 GND (power), 20 VCC (power)
part A text: OE
part B text: OE
part C text: OE
part D text: OE
part E text: OE
part F text: OE
part G text: OE
part H text: OE
part I text: OE

## SN74HC373 Type-2
designator U?, comment SN74HC373
Octal Transparent D-Type Latches with 3-State Outputs
footprint PDIP20
footprint SOIC20
part A pins: 1 ~{OE} (in), 2 1Q (out), 3 1D (in), 4 2D (in), 5 2Q (out), 6 3Q (out), 7 3D (in), 8 4D (in), 9 4Q (out), 11 LE (in), 12 5Q (out), 13 5D (in), 14 6D (in), 15 6Q (out), 16 7Q (out), 17 7D (in), 18 8D (in), 19 8Q (out)
part B pins: 10 GND (power), 20 VCC (power)

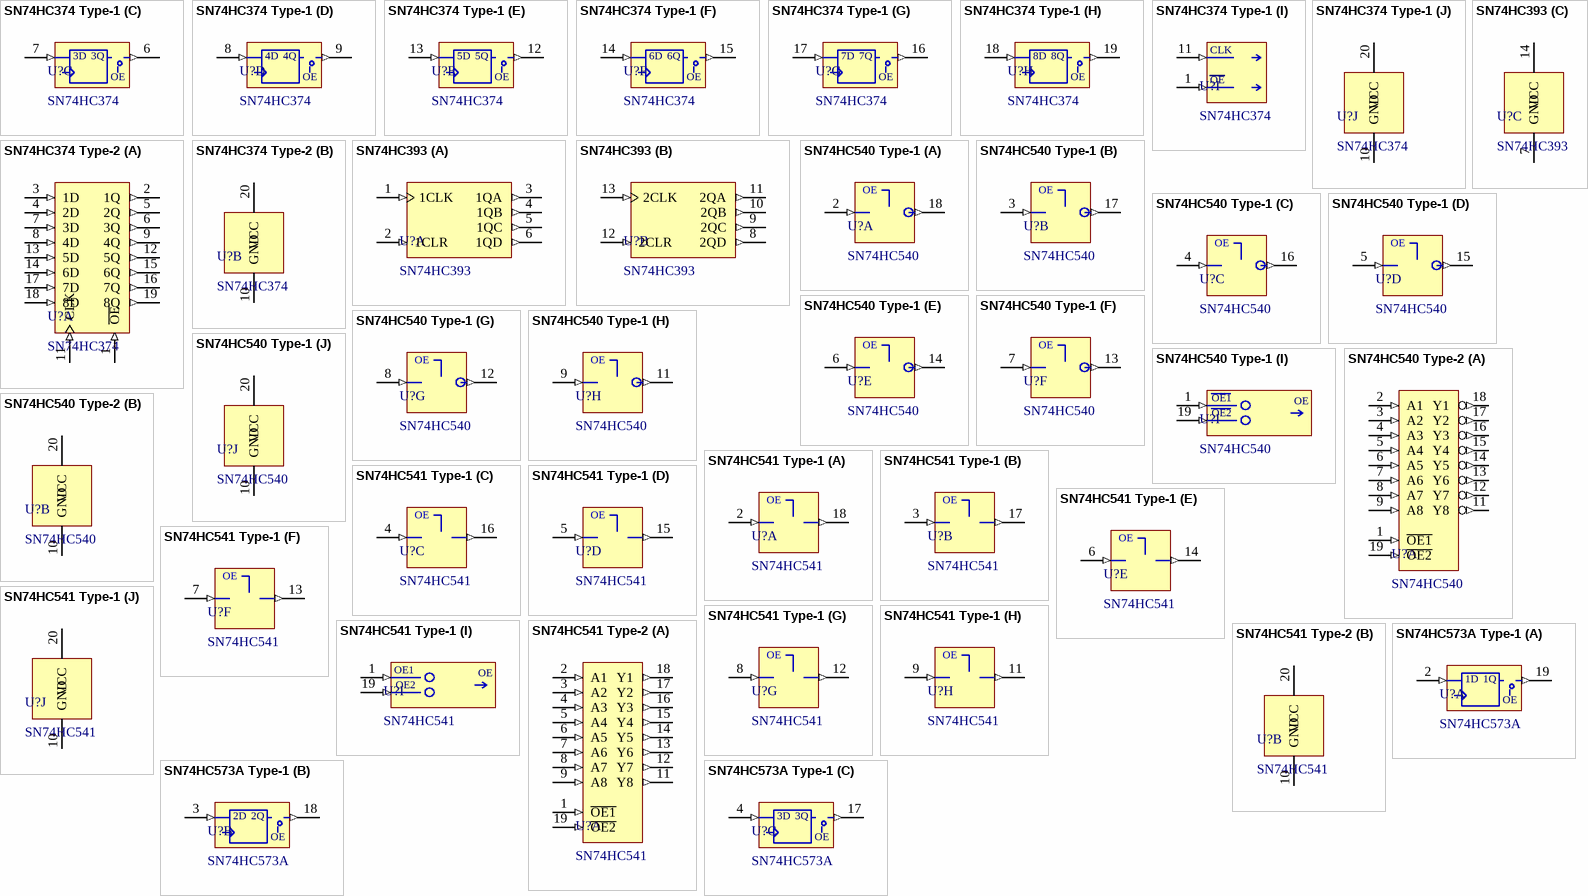
[diagram p9: symbols SN74HC374 Type-1 to SN74HC573A Type-1]

## SN74HC374 Type-1
designator U?, comment SN74HC374
Octal Edge-Triggered D-Type Flip-Flops With 3-State Outputs
footprint PDIP20
footprint SOIC20
part A pins: 2 1Q (out), 3 1D (in)
part B pins: 4 2D (in), 5 2Q (out)
part C pins: 6 3Q (out), 7 3D (in)
part D pins: 8 4D (in), 9 4Q (out)
part E pins: 12 5Q (out), 13 5D (in)
part F pins: 14 6D (in), 15 6Q (out)
part G pins: 16 7Q (out), 17 7D (in)
part H pins: 18 8D (in), 19 8Q (out)
part I pins: 1 ~{OE} (in), 11 CLK (in)
part J pins: 10 GND (power), 20 VCC (power)
part A text: OE
part B text: OE
part C text: OE
part D text: OE
part E text: OE
part F text: OE
part G text: OE
part H text: OE
part I text: OE

## SN74HC374 Type-2
designator U?, comment SN74HC374
Octal Edge-Triggered D-Type Flip-Flops With 3-State Outputs
footprint PDIP20
footprint SOIC20
part A pins: 1 ~{OE} (in), 2 1Q (out), 3 1D (in), 4 2D (in), 5 2Q (out), 6 3Q (out), 7 3D (in), 8 4D (in), 9 4Q (out), 11 CLK (in), 12 5Q (out), 13 5D (in), 14 6D (in), 15 6Q (out), 16 7Q (out), 17 7D (in), 18 8D (in), 19 8Q (out)
part B pins: 10 GND (power), 20 VCC (power)

## SN74HC393
designator U?
Dual 4-Bit Binary Counters
footprint CDIP14
footprint SOIC14
footprint TSSOP14
part A pins: 1 1CLK (in), 2 1CLR (in), 3 1QA (out), 4 1QB (out), 5 1QC (out), 6 1QD (out)
part B pins: 8 2QD (out), 9 2QC (out), 10 2QB (out), 11 2QA (out), 12 2CLR (in), 13 2CLK (in)
part C pins: 7 GND (power), 14 VCC (power)

## SN74HC540 Type-1
designator U?, comment SN74HC540
Octal Buffers and Line Drivers With 3-State Outputs
footprint PDIP20
footprint SOIC20
part A pins: 2 A1 (in), 18 Y1 (out)
part B pins: 3 A2 (in), 17 Y2 (out)
part C pins: 4 A3 (in), 16 Y3 (out)
part D pins: 5 A4 (in), 15 Y4 (out)
part E pins: 6 A5 (in), 14 Y5 (out)
part F pins: 7 A6 (in), 13 Y6 (out)
part G pins: 8 A7 (in), 12 Y7 (out)
part H pins: 9 A8 (in), 11 Y8 (out)
part I pins: 1 OE1 (in), 19 OE2 (in)
part J pins: 10 GND (power), 20 VCC (power)
part A text: OE
part B text: OE
part C text: OE
part D text: OE
part E text: OE
part F text: OE
part G text: OE
part H text: OE
part I text: OE

## SN74HC540 Type-2
designator U?, comment SN74HC540
Octal Buffers and Line Drivers With 3-State Outputs
footprint PDIP20
footprint SOIC20
part A pins: 1 ~{OE1} (in), 2 A1 (in), 3 A2 (in), 4 A3 (in), 5 A4 (in), 6 A5 (in), 7 A6 (in), 8 A7 (in), 9 A8 (in), 11 Y8 (out), 12 Y7 (out), 13 Y6 (out), 14 Y5 (out), 15 Y4 (out), 16 Y3 (out), 17 Y2 (out), 18 Y1 (out), 19 ~{OE2} (in)
part B pins: 10 GND (power), 20 VCC (power)

## SN74HC541 Type-1
designator U?, comment SN74HC541
Octal Buffers and Line Drivers With 3-State Outputs
footprint PDIP20
footprint SOIC20
part A pins: 2 A1 (in), 18 Y1 (out)
part B pins: 3 A2 (in), 17 Y2 (out)
part C pins: 4 A3 (in), 16 Y3 (out)
part D pins: 5 A4 (in), 15 Y4 (out)
part E pins: 6 A5 (in), 14 Y5 (out)
part F pins: 7 A6 (in), 13 Y6 (out)
part G pins: 8 A7 (in), 12 Y7 (out)
part H pins: 9 A8 (in), 11 Y8 (out)
part I pins: 1 OE1 (in), 19 OE2 (in)
part J pins: 10 GND (power), 20 VCC (power)
part A text: OE
part B text: OE
part C text: OE
part D text: OE
part E text: OE
part F text: OE
part G text: OE
part H text: OE
part I text: OE

## SN74HC541 Type-2
designator U?, comment SN74HC541
Octal Buffers and Line Drivers With 3-State Outputs
footprint PDIP20
footprint SOIC20
part A pins: 1 ~{OE1} (in), 2 A1 (in), 3 A2 (in), 4 A3 (in), 5 A4 (in), 6 A5 (in), 7 A6 (in), 8 A7 (in), 9 A8 (in), 11 Y8 (out), 12 Y7 (out), 13 Y6 (out), 14 Y5 (out), 15 Y4 (out), 16 Y3 (out), 17 Y2 (out), 18 Y1 (out), 19 ~{OE2} (in)
part B pins: 10 GND (power), 20 VCC (power)

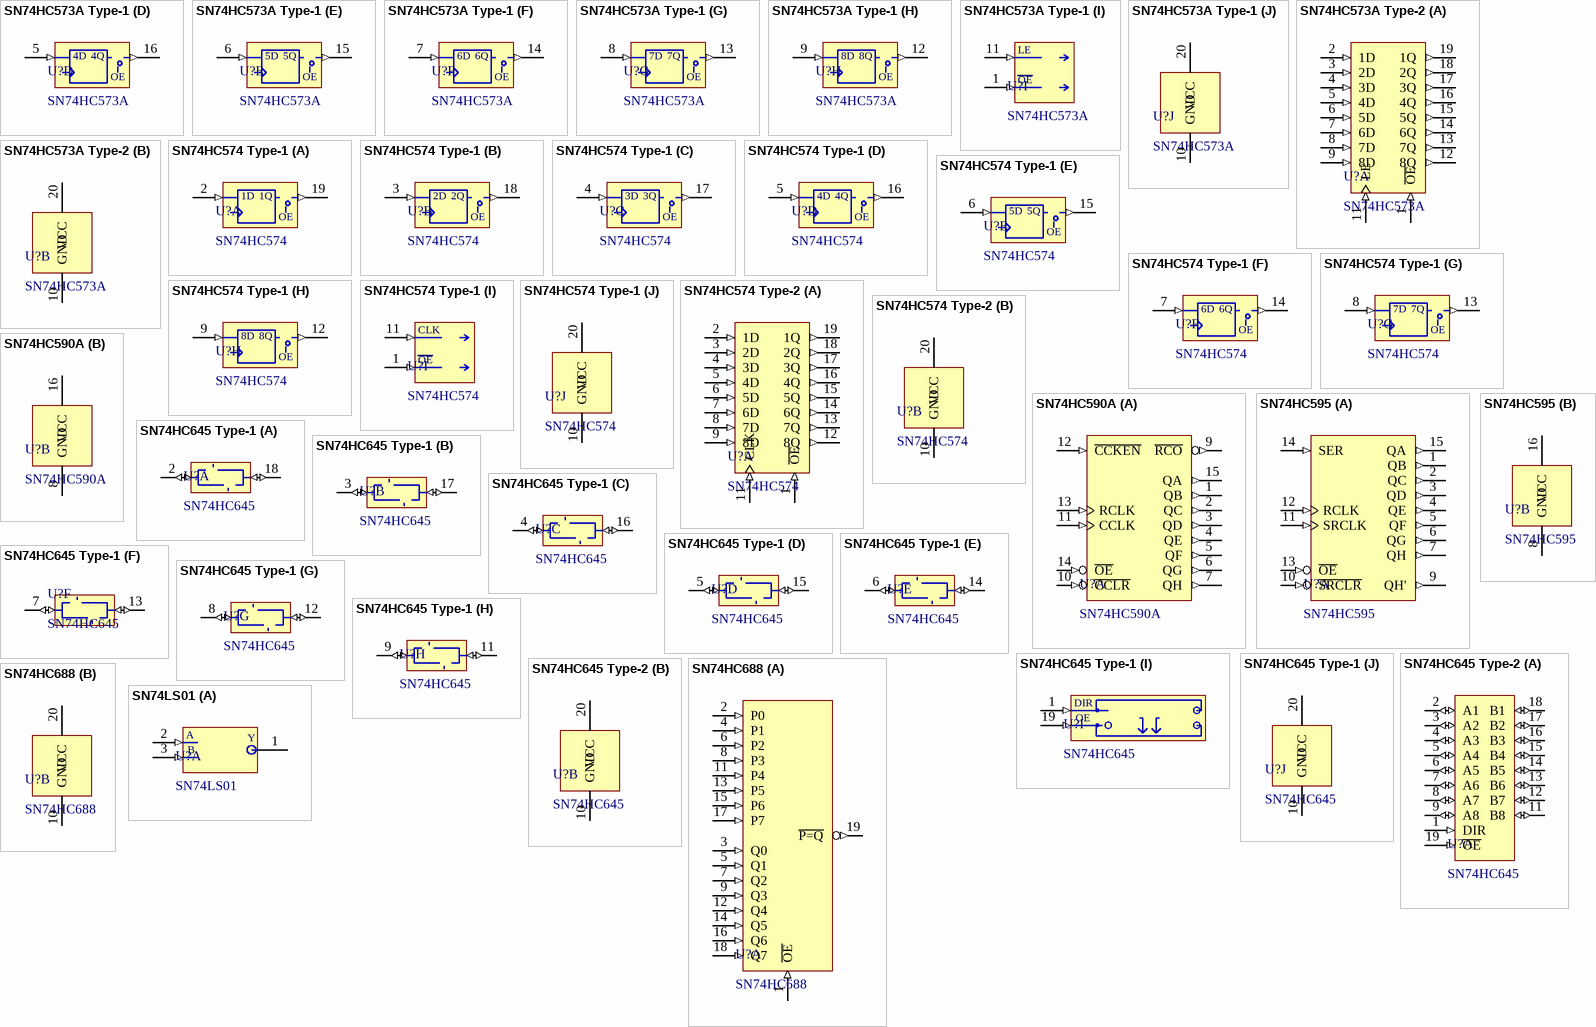
[diagram p10: symbols SN74HC573A Type-1 to SN74LS01]

## SN74HC573A Type-1
designator U?, comment SN74HC573A
Octal Transparent D-Type Latches with 3-State Outputs
footprint PDIP20
footprint SOIC20
part A pins: 2 1D (in), 19 1Q (out)
part B pins: 3 2D (in), 18 2Q (out)
part C pins: 4 3D (in), 17 3Q (out)
part D pins: 5 4D (in), 16 4Q (out)
part E pins: 6 5D (in), 15 5Q (out)
part F pins: 7 6D (in), 14 6Q (out)
part G pins: 8 7D (in), 13 7Q (out)
part H pins: 9 8D (in), 12 8Q (out)
part I pins: 1 ~{OE} (in), 11 LE (in)
part J pins: 10 GND (power), 20 VCC (power)
part A text: OE
part B text: OE
part C text: OE
part D text: OE
part E text: OE
part F text: OE
part G text: OE
part H text: OE
part I text: OE

## SN74HC573A Type-2
designator U?, comment SN74HC573A
Octal Transparent D-Type Latches with 3-State Outputs
footprint PDIP20
footprint SOIC20
part A pins: 1 ~{OE} (in), 2 1D (in), 3 2D (in), 4 3D (in), 5 4D (in), 6 5D (in), 7 6D (in), 8 7D (in), 9 8D (in), 11 LE (in), 12 8Q (out), 13 7Q (out), 14 6Q (out), 15 5Q (out), 16 4Q (out), 17 3Q (out), 18 2Q (out), 19 1Q (out)
part B pins: 10 GND (power), 20 VCC (power)

## SN74HC574 Type-1
designator U?, comment SN74HC574
Octal Edge-Triggered D-Type Flip-Flops With 3-State Outputs
footprint PDIP20
footprint SOIC20
part A pins: 2 1D (in), 19 1Q (out)
part B pins: 3 2D (in), 18 2Q (out)
part C pins: 4 3D (in), 17 3Q (out)
part D pins: 5 4D (in), 16 4Q (out)
part E pins: 6 5D (in), 15 5Q (out)
part F pins: 7 6D (in), 14 6Q (out)
part G pins: 8 7D (in), 13 7Q (out)
part H pins: 9 8D (in), 12 8Q (out)
part I pins: 1 ~{OE} (in), 11 CLK (in)
part J pins: 10 GND (power), 20 VCC (power)
part A text: OE
part B text: OE
part C text: OE
part D text: OE
part E text: OE
part F text: OE
part G text: OE
part H text: OE
part I text: OE

## SN74HC574 Type-2
designator U?, comment SN74HC574
Octal Edge-Triggered D-Type Flip-Flops With 3-State Outputs
footprint PDIP20
footprint SOIC20
part A pins: 1 ~{OE} (in), 2 1D (in), 3 2D (in), 4 3D (in), 5 4D (in), 6 5D (in), 7 6D (in), 8 7D (in), 9 8D (in), 11 CLK (in), 12 8Q (out), 13 7Q (out), 14 6Q (out), 15 5Q (out), 16 4Q (out), 17 3Q (out), 18 2Q (out), 19 1Q (out)
part B pins: 10 GND (power), 20 VCC (power)

## SN74HC590A
designator U?
8-Bit Binary Counters with 3-State Output Registers
footprint PDIP16
footprint SOIC16
part A pins: 1 QB (out), 2 QC (out), 3 QD (out), 4 QE (out), 5 QF (out), 6 QG (out), 7 QH (out), 9 ~{RCO} (out), 10 ~{CCLR} (in), 11 CCLK (in), 12 ~{CCKEN} (in), 13 RCLK (in), 14 ~{OE} (in), 15 QA (out)
part B pins: 8 GND (power), 16 VCC (power)

## SN74HC595
designator U?
8-Bit Shift Registers with 3-State Output Registers
footprint PDIP16
footprint SOIC16
footprint TSSOP16
part A pins: 1 QB (out), 2 QC (out), 3 QD (out), 4 QE (out), 5 QF (out), 6 QG (out), 7 QH (out), 9 QH' (out), 10 ~{SRCLR} (in), 11 SRCLK (in), 12 RCLK (in), 13 ~{OE} (in), 14 SER (in), 15 QA (out)
part B pins: 8 GND (power), 16 VCC (power)

## SN74HC645 Type-1
designator U?, comment SN74HC645
Octal Bus Transceivers with 3-State Outputs
footprint PDIP20
footprint SOIC20
part A pins: 2 A1 (io), 18 B1 (io)
part B pins: 3 A2 (io), 17 B2 (io)
part C pins: 4 A3 (io), 16 B3 (io)
part D pins: 5 A4 (io), 15 B4 (io)
part E pins: 6 A5 (io), 14 B5 (io)
part F pins: 7 A6 (io), 13 B6 (io)
part G pins: 8 A7 (io), 12 B7 (io)
part H pins: 9 A8 (io), 11 B8 (io)
part I pins: 1 DIR (in), 19 ~{OE} (in)
part J pins: 10 GND (power), 20 VCC (power)
part I text: OE

## SN74HC645 Type-2
designator U?, comment SN74HC645
Octal Bus Transceivers with 3-State Outputs
footprint PDIP20
footprint SOIC20
part A pins: 1 DIR (in), 2 A1 (io), 3 A2 (io), 4 A3 (io), 5 A4 (io), 6 A5 (io), 7 A6 (io), 8 A7 (io), 9 A8 (io), 11 B8 (io), 12 B7 (io), 13 B6 (io), 14 B5 (io), 15 B4 (io), 16 B3 (io), 17 B2 (io), 18 B1 (io), 19 ~{OE} (in)
part B pins: 10 GND (power), 20 VCC (power)

## SN74HC688
designator U?
8-Bit Identity Comparators
footprint PDIP20
footprint SOIC20
part A pins: 1 ~{OE} (in), 2 P0 (in), 3 Q0 (in), 4 P1 (in), 5 Q1 (in), 6 P2 (in), 7 Q2 (in), 8 P3 (in), 9 Q3 (in), 11 P4 (in), 12 Q4 (in), 13 P5 (in), 14 Q5 (in), 15 P6 (in), 16 Q6 (in), 17 P7 (in), 18 Q7 (in), 19 ~{P=Q} (out)
part B pins: 10 GND (power), 20 VCC (power)

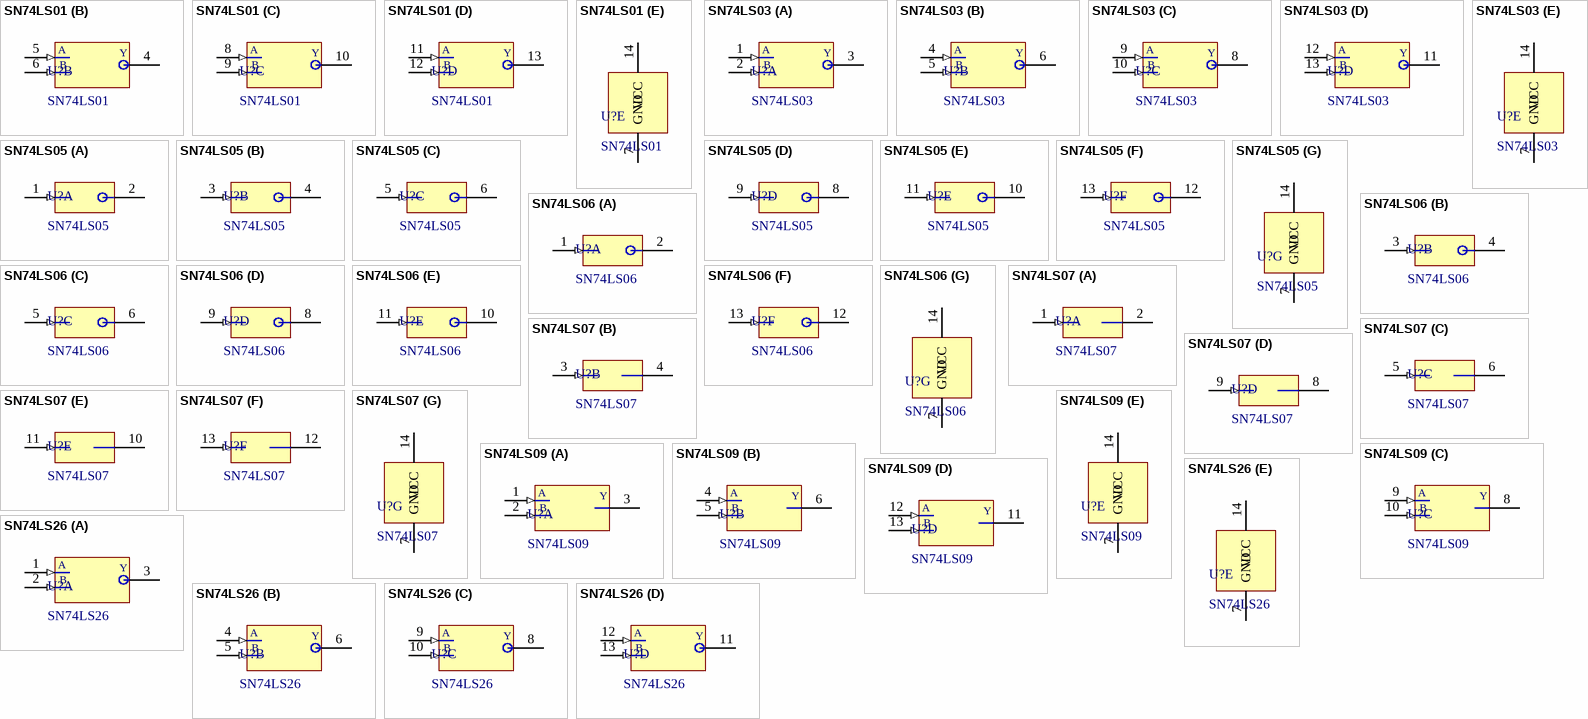
[diagram p11: symbols SN74LS01 to SN74LS26]

## SN74LS01
designator U?
Quadruple 2-Input Positive-NAND Gates with Open-Collector Outputs
footprint CDIP14
part A pins: 1 Y (oc), 2 A (in), 3 B (in)
part B pins: 4 Y (oc), 5 A (in), 6 B (in)
part C pins: 8 A (in), 9 B (in), 10 Y (oc)
part D pins: 11 A (in), 12 B (in), 13 Y (oc)
part E pins: 7 GND (power), 14 VCC (power)

## SN74LS03
designator U?
Quadruple 2-Input Positive-NAND Gates with Open-Collector Outputs
footprint SOIC14
part A pins: 1 A (in), 2 B (in), 3 Y (oc)
part B pins: 4 A (in), 5 B (in), 6 Y (oc)
part C pins: 8 Y (oc), 9 A (in), 10 B (in)
part D pins: 11 Y (oc), 12 A (in), 13 B (in)
part E pins: 7 GND (power), 14 VCC (power)

## SN74LS05
designator U?
Hex Inverters with Open-Collectors Outputs
footprint CDIP14
footprint SOIC14
part A pins: 1 A (in), 2 Y (oc)
part B pins: 3 A (in), 4 Y (oc)
part C pins: 5 A (in), 6 Y (oc)
part D pins: 8 Y (oc), 9 A (in)
part E pins: 10 Y (oc), 11 A (in)
part F pins: 12 Y (oc), 13 A (in)
part G pins: 7 GND (power), 14 VCC (power)

## SN74LS06
designator U?
Hex Inverter Buffers and Drivers with Open-Collector High-Voltage Outputs
footprint CDIP14
footprint SOIC14
part A pins: 1 A (in), 2 Y (oc)
part B pins: 3 A (in), 4 Y (oc)
part C pins: 5 A (in), 6 Y (oc)
part D pins: 8 Y (oc), 9 A (in)
part E pins: 10 Y (oc), 11 A (in)
part F pins: 12 Y (oc), 13 A (in)
part G pins: 7 GND (power), 14 VCC (power)

## SN74LS07
designator U?
Hex Buffers and Drivers with Open-Collector High-Voltage Outputs
footprint CDIP14
footprint SOIC14
part A pins: 1 A (in), 2 Y (oc)
part B pins: 3 A (in), 4 Y (oc)
part C pins: 5 A (in), 6 Y (oc)
part D pins: 8 Y (oc), 9 A (in)
part E pins: 10 Y (oc), 11 A (in)
part F pins: 12 Y (oc), 13 A (in)
part G pins: 7 GND (power), 14 VCC (power)

## SN74LS09
designator U?
Quadruple 2-Input Positive-AND Gates Open Collector Outputs
footprint CDIP14
footprint SOIC14
footprint TSSOP14
part A pins: 1 A (in), 2 B (in), 3 Y (oc)
part B pins: 4 A (in), 5 B (in), 6 Y (oc)
part C pins: 8 Y (oc), 9 A (in), 10 B (in)
part D pins: 11 Y (oc), 12 A (in), 13 B (in)
part E pins: 7 GND (power), 14 VCC (power)

## SN74LS26
designator U?
Quadruple 2-Input High-Voltage Positive-NAND Gates
footprint CDIP14
footprint SOIC14
part A pins: 1 A (in), 2 B (in), 3 Y (oc)
part B pins: 4 A (in), 5 B (in), 6 Y (oc)
part C pins: 8 Y (oc), 9 A (in), 10 B (in)
part D pins: 11 Y (oc), 12 A (in), 13 B (in)
part E pins: 7 GND (power), 14 VCC (power)

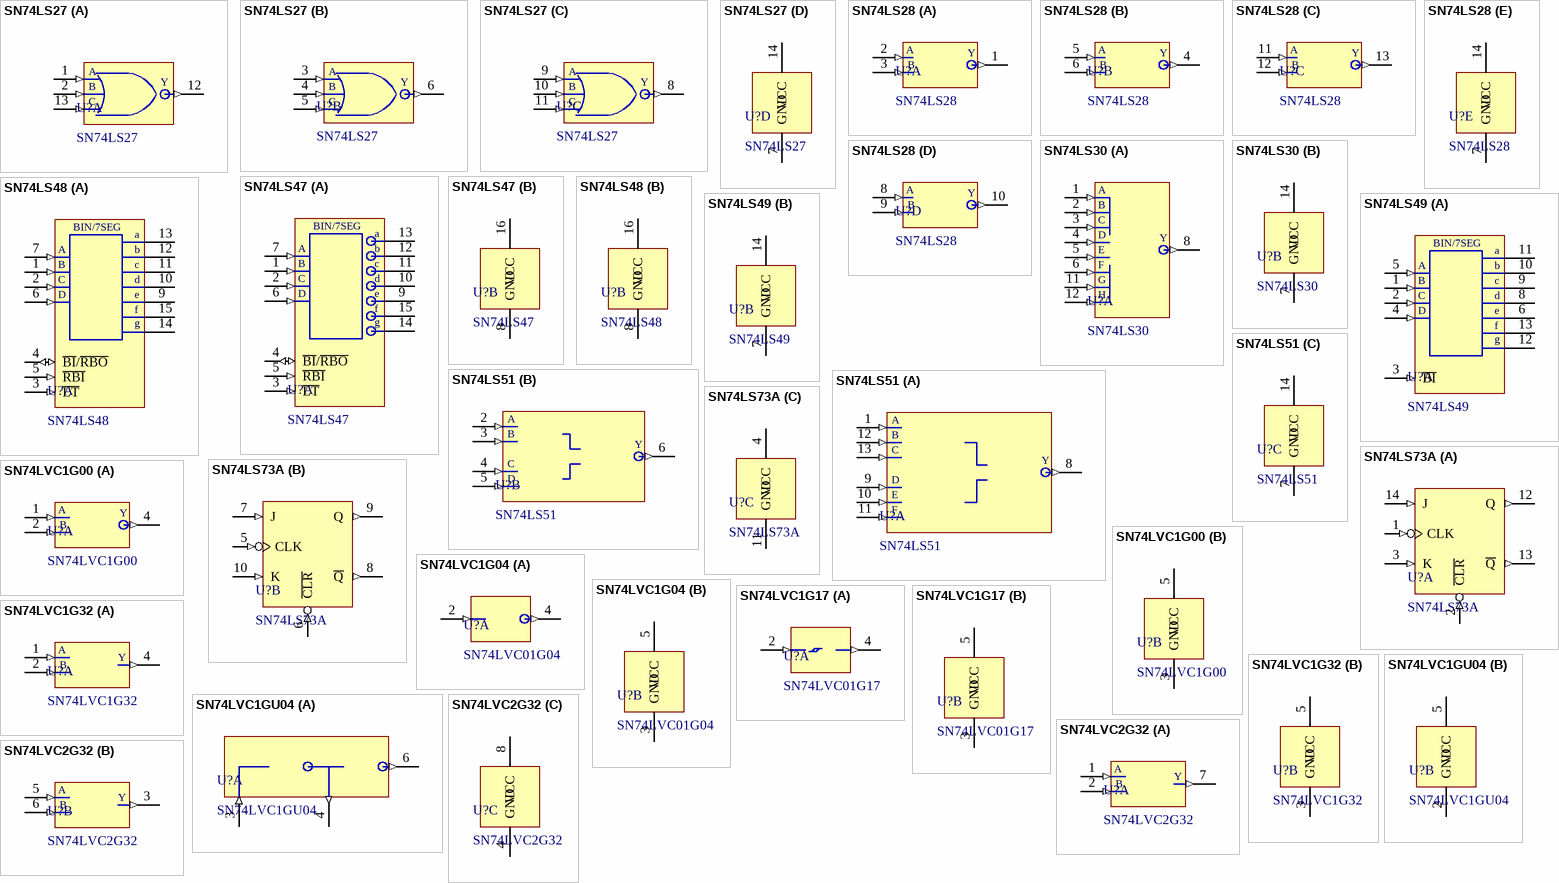
[diagram p12: symbols SN74LS27 to SN74LVC2G32]

## SN74LS27
designator U?
Triple 3-Input Positive NOR Gates
footprint CDIP14
footprint SOIC14
part A pins: 1 A (in), 2 B (in), 12 Y (out), 13 C (in)
part B pins: 3 A (in), 4 B (in), 5 C (in), 6 Y (out)
part C pins: 8 Y (out), 9 A (in), 10 B (in), 11 C (in)
part D pins: 7 GND (power), 14 VCC (power)

## SN74LS28
designator U?
Quadruple 2-Input Positive-NOR Buffers
footprint CDIP14
part A pins: 1 Y (out), 2 A (in), 3 B (in)
part B pins: 4 Y (out), 5 A (in), 6 B (in)
part C pins: 11 A (in), 12 B (in), 13 Y (out)
part D pins: 8 A (in), 9 B (in), 10 Y (out)
part E pins: 7 GND (power), 14 VCC (power)

## SN74LS30
designator U?
8-Input Positive-NAND Gates
footprint CDIP14
footprint SOIC14
part A pins: 1 A (in), 2 B (in), 3 C (in), 4 D (in), 5 E (in), 6 F (in), 8 Y (out), 11 G (in), 12 H (in)
part B pins: 7 GND (power), 14 VCC (power)

## SN74LS47
designator U?
BCD to Seven Segment Decoders/Drivers
footprint PDIP16
footprint SOIC16
part A pins: 1 B_IN (in), 2 C_IN (in), 3 ~{LT} (in), 4 ~{BI}/~{RBO} (io), 5 ~{RBI} (in), 6 D_IN (in), 7 A_IN (in), 9 E_OUT (oc), 10 D_OUT (oc), 11 C_OUT (oc), 12 B_OUT (oc), 13 A_OUT (oc), 14 G_OUT (oc), 15 F_OUT (oc)
part B pins: 8 GND (power), 16 VCC (power)
part A text: BIN/7SEG; a; A; b; B; c; C; d; D; e; f; g

## SN74LS48
designator U?
BCD to Seven Segment Decoders/Drivers
footprint PDIP16
footprint SOIC16
part A pins: 1 B_IN (in), 2 C_IN (in), 3 ~{LT} (in), 4 ~{BI}/~{RBO} (io), 5 ~{RBI} (in), 6 D_IN (in), 7 A_IN (in), 9 E_OUT (oc), 10 D_OUT (oc), 11 C_OUT (oc), 12 B_OUT (oc), 13 A_OUT (oc), 14 G_OUT (oc), 15 F_OUT (oc)
part B pins: 8 GND (power), 16 VCC (power)
part A text: BIN/7SEG; a; A; b; B; c; C; d; D; e; f; g

## SN74LS49
designator U?
BCD to Seven Segment Decoders/Drivers
footprint CDIP14
footprint SOIC14
part A pins: 1 B_IN (in), 2 C_IN (in), 3 ~{BI} (in), 4 D_IN (in), 5 A_IN (in), 6 E_OUT (oc), 8 D_OUT (oc), 9 C_OUT (oc), 10 B_OUT (oc), 11 A_OUT (oc), 12 G_OUT (oc), 13 F_OUT (oc)
part B pins: 7 GND (power), 14 VCC (power)
part A text: BIN/7SEG; a; A; b; B; c; C; d; D; e; f; g

## SN74LS51
designator U?
AND-OR-INVERTER Gate
footprint CDIP14
footprint SOIC14
footprint TSSOP14
part A pins: 1 A (in), 8 Y (out), 9 D (in), 10 E (in), 11 F (in), 12 B (in), 13 C (in)
part B pins: 2 A (in), 3 B (in), 4 C (in), 5 D (in), 6 Y (out)
part C pins: 7 GND (power), 14 VCC (power)

## SN74LS73A
designator U?
Dual J-K Flip-Flops with Clear
footprint CDIP14
footprint SOIC14
footprint TSSOP14
part A pins: 1 CLK (in), 2 ~{CLR} (in), 3 K (in), 12 Q (out), 13 ~{Q} (out), 14 J (in)
part B pins: 5 CLK (in), 6 ~{CLR} (in), 7 J (in), 8 ~{Q} (out), 9 Q (out), 10 K (in)
part C pins: 4 VCC (power), 11 GND (power)

## SN74LVC1G00
designator U?
Single 2-Input Positive-NAND Gate
footprint SOT23-5
part A pins: 1 A (in), 2 B (in), 4 Y (out)
part B pins: 3 GND (power), 5 VCC (power)

## SN74LVC1G04
designator U?, comment SN74LVC01G04
Single Inverter Gate
footprint SOT23-5
part A pins: 2 A (in), 4 Y (out)
part B pins: 3 GND (power), 5 VCC (power)

## SN74LVC1G17
designator U?, comment SN74LVC01G17
Single Schmitt-Trigger Buffer
footprint SOT23-5
part A pins: 2 A (in), 4 Y (out)
part B pins: 3 GND (power), 5 VCC (power)

## SN74LVC1G32
designator U?
Single 2-Input OR Gate
footprint SOT23-5
part A pins: 1 A (in), 2 B (in), 4 Y (out)
part B pins: 3 GND (power), 5 VCC (power)

## SN74LVC1GU04
designator U?
Crystal Oscillator Driver
footprint SOT23-6
part A pins: 3 X1 (in), 4 X2 (out), 6 Y (out)
part B pins: 2 GND (power), 5 VCC (power)

## SN74LVC2G32
designator U?
Dual 2-Input OR Gate; Datasheet: http://www.ti.com/lit/ds/symlink/sn74lvc2g32-ep.pdf
footprint SSOP-8
part A pins: 1 A (in), 2 B (in), 7 Y (out)
part B pins: 3 Y (out), 5 A (in), 6 B (in)
part C pins: 4 GND (power), 8 VCC (power)


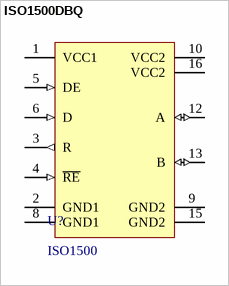
[diagram p13: symbol ISO1500DBQ]

## ISO1500DBQ
designator U?, comment ISO1500
Basic Isolated RS-485/RS-422 Transceiverin Ultra-Small Package
footprint SSOP16
pins: 1 VCC1 (power), 2 GND1 (power), 3 R (out), 4 ~{RE} (in), 5 DE (in), 6 D (in), 8 GND1 (power), 9 GND2 (power), 10 VCC2 (power), 12 A (io), 13 B (io), 15 GND2 (power), 16 VCC2 (power)


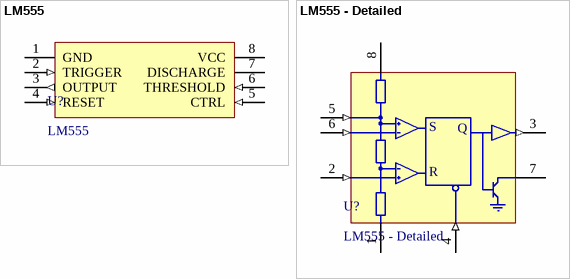
[diagram p14: symbols LM555 to LM555 - Detailed]

## LM555
designator U?
LM555 Timer
footprint PDIP8
footprint VSSOP-8
footprint SOIC8
pins: 1 GND (power), 2 TRIGGER (in), 3 OUTPUT (out), 4 RESET (in), 5 CTRL (in), 6 THRESHOLD (in), 7 DISCHARGE (oc), 8 VCC (power)

## LM555 - Detailed
designator U?
LM555 Timer
footprint PDIP8
footprint VSSOP-8
footprint SOIC8
pins: 1 GND (power), 2 TRIGGER (in), 3 OUTPUT (out), 4 RESET (in), 5 CONTROL (in), 6 THRESHOLD (in), 7 DISCHARGE (oc), 8 VCC (power)
text: S; Q; R


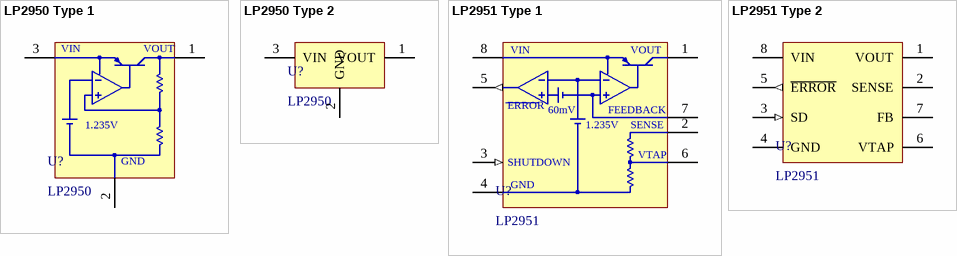
[diagram p15: symbols LP2950 Type 1 to LP2951 Type 2]

## LP2950 Type 1
designator U?, comment LP2950
Micropower Voltage Regulators with Shutdown
footprint TO-92 BENT (BENT LEAD)
footprint TO-92 STRAIGHT (STRAIGHT LEAD)
pins: 1 (power), 2 (power), 3 (power)
text: VIN; VOUT; 1.235V; GND

## LP2950 Type 2
designator U?, comment LP2950
Micropower Voltage Regulators with Shutdown
footprint TO-92 BENT (BENT LEAD)
footprint TO-92 STRAIGHT (STRAIGHT LEAD)
pins: 1 VOUT (power), 2 GND (power), 3 VIN (power)

## LP2951 Type 1
designator U?, comment LP2951
Micropower Voltage Regulators with Shutdown
footprint SOIC8
pins: 1 VOUT (power), 2 SENSE, 3 SHUTDOWN (in), 4 GND (power), 5 ~{ERROR} (out), 6 VTAP, 7 FEEDBACK, 8 VIN (power)
text: ERROR; 60mV; 1.235V

## LP2951 Type 2
designator U?, comment LP2951
Micropower Voltage Regulators with Shutdown
footprint SOIC8
pins: 1 VOUT (power), 2 SENSE, 3 SD (in), 4 GND (power), 5 ~{ERROR} (out), 6 VTAP, 7 FB, 8 VIN (power)


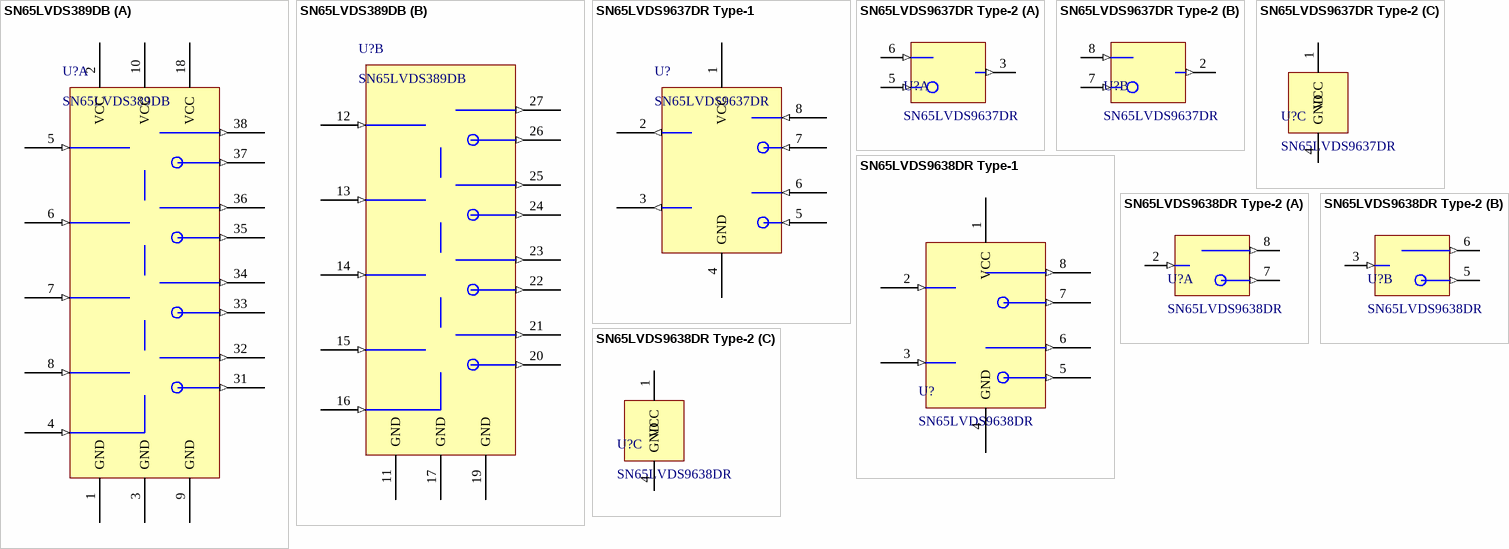
[diagram p16: symbols SN65LVDS389DB to SN65LVDS9638DR Type-2]

## SN65LVDS389DB
designator U?
SN65LVDS - Differential Drivers and Receivers
footprint TSSOP38 - SN65LVDS389DB (SN65LVDS389DB)
part A pins: 1 GND (power), 2 VCC (power), 3 GND (power), 4 ENA (in), 5 A1A (in), 6 A2A (in), 7 A3A (in), 8 A4A (in), 9 GND (power), 10 VCC (power), 18 VCC (power), 31 A4Z (out), 32 A4Y (out), 33 A3Z (out), 34 A3Y (out), 35 A2Z (out), 36 A2Y (out), 37 A1Z (out), 38 A1Y (out)
part B pins: 11 GND (power), 12 B1A (in), 13 B2A (in), 14 B3A (in), 15 B4A (in), 16 ENB (in), 17 GND (power), 19 GND (power), 20 B4Z (out), 21 B4Y (out), 22 B3Z (out), 23 B3Y (out), 24 B2Z (out), 25 B2Y (out), 26 B1Z (out), 27 B1Y (out), 28 NC_1 hidden, 29 NC_2 hidden, 30 NC_3 hidden

## SN65LVDS9637DR Type-1
designator U?, comment SN65LVDS9637DR
SN65LVDS - Differential Drivers and Receivers
footprint SOIC8 - SN65LVDS9637 (SN65LVDS9637)
pins: 1 VCC (power), 2 1Y (out), 3 2Y (out), 4 GND (power), 5 2B (in), 6 2A (in), 7 1B (in), 8 1A (in)

## SN65LVDS9637DR Type-2
designator U?, comment SN65LVDS9637DR
SN65LVDS - Differential Drivers and Receivers
footprint SOIC8 - SN65LVDS9637 (SN65LVDS9637)
part A pins: 3 2Y (out), 5 2B (in), 6 2A (in)
part B pins: 2 1Y (out), 7 1B (in), 8 1A (in)
part C pins: 1 VCC (power), 4 GND (power)

## SN65LVDS9638DR Type-1
designator U?, comment SN65LVDS9638DR
SN65LVDS - Differential Drivers and Receivers
footprint SOIC8 - SN65LVDS9638 (SN65LVDS9638)
pins: 1 VCC (power), 2 1Y (in), 3 2Y (in), 4 GND (power), 5 2B (out), 6 2A (out), 7 1B (out), 8 1A (out)

## SN65LVDS9638DR Type-2
designator U?, comment SN65LVDS9638DR
SN65LVDS - Differential Drivers and Receivers
footprint SOIC8 - SN65LVDS9638 (SN65LVDS9638)
part A pins: 2 1Y (in), 7 1B (out), 8 1A (out)
part B pins: 3 2Y (in), 5 2B (out), 6 2A (out)
part C pins: 1 VCC (power), 4 GND (power)


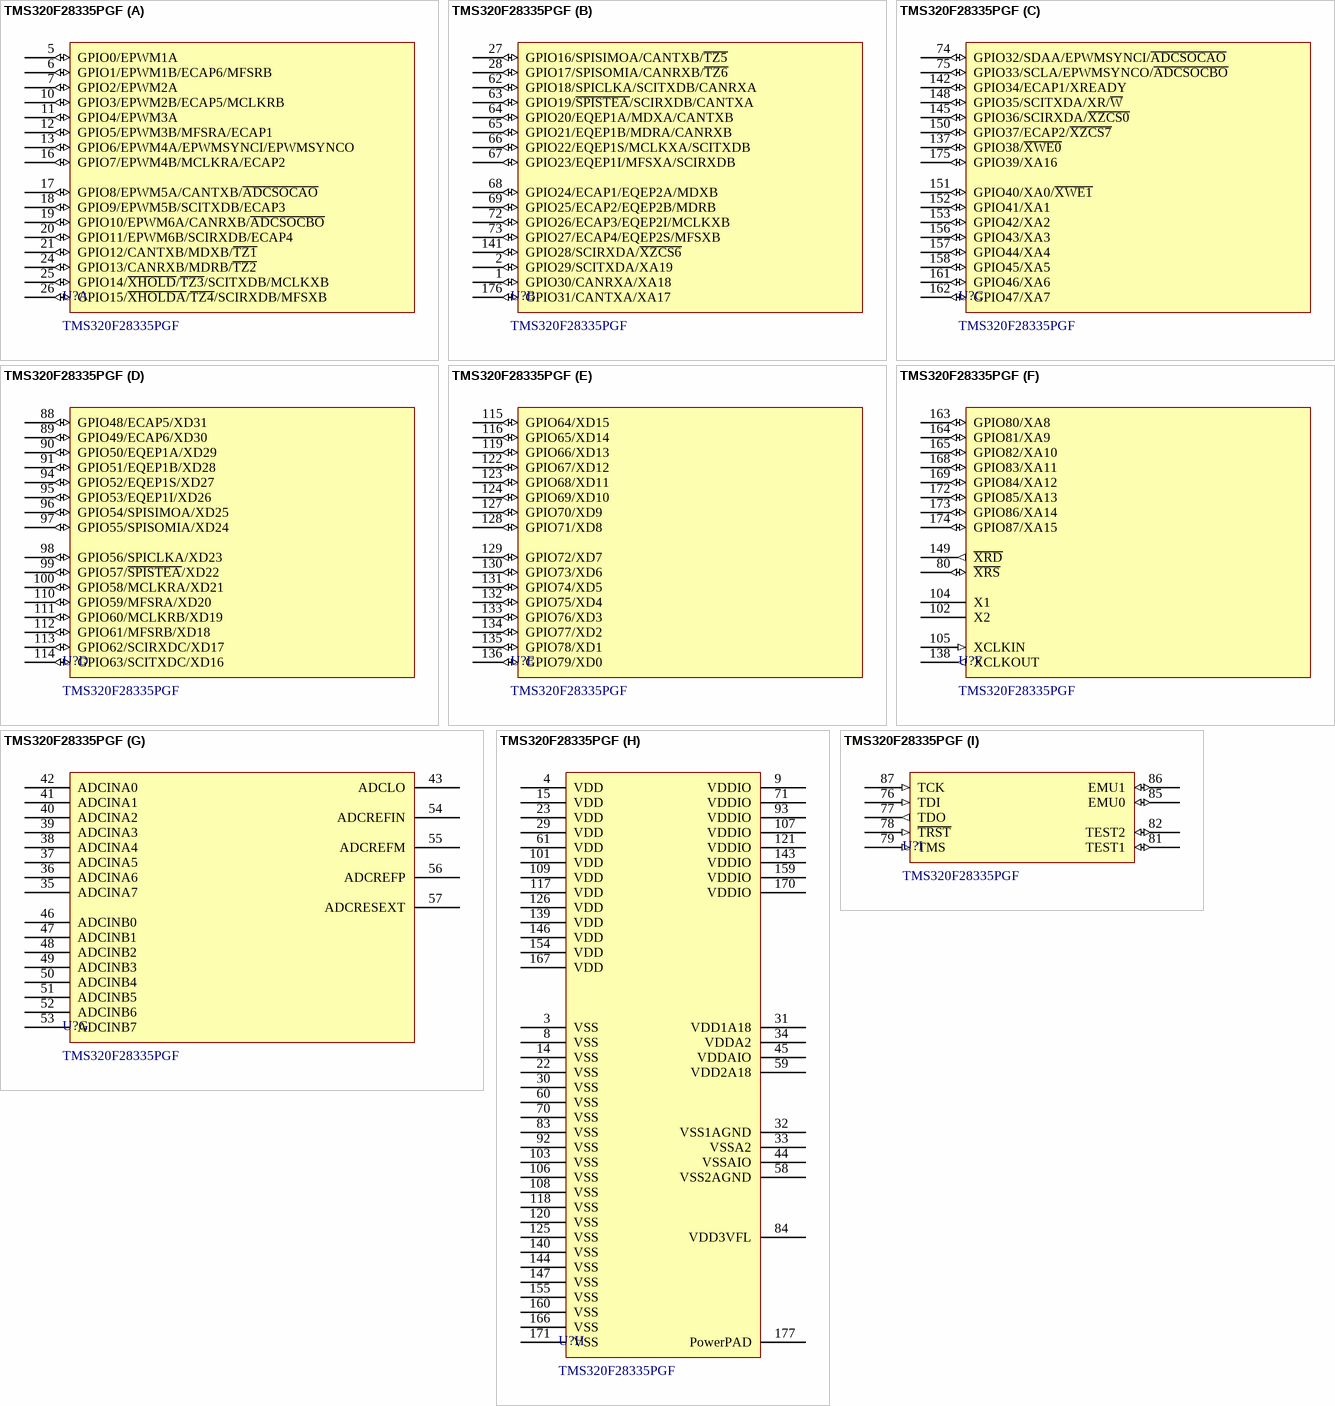
[diagram p17: symbol TMS320F28335PGF]

## TMS320F28335PGF
designator U?
DSP Delfino 150MHz 512KB Flash 68KB RAM
footprint LQFP176 - TMS320F28335 (LQFP176 with PowerPAD.)
part A pins: 5 GPIO0/EPWM1A  (io), 6 GPIO1/EPWM1B/ECAP6/MFSRB  (io), 7 GPIO2/EPWM2A  (io), 10 GPIO3/EPWM2B/ECAP5/MCLKRB  (io), 11 GPIO4/EPWM3A (io), 12 GPIO5/EPWM3B/MFSRA/ECAP1  (io), 13 GPIO6/EPWM4A/EPWMSYNCI/EPWMSYNCO  (io), 16 GPIO7/EPWM4B/MCLKRA/ECAP2  (io), 17 GPIO8/EPWM5A/CANTXB/~{ADCSOCAO} (io), 18 GPIO9/EPWM5B/SCITXDB/ECAP3 (io), 19 GPIO10/EPWM6A/CANRXB/~{ADCSOCBO} (io), 20 GPIO11/EPWM6B/SCIRXDB/ECAP4 (io), 21 GPIO12/CANTXB/MDXB/~{TZ1}  (io), 24 GPIO13/CANRXB/MDRB/~{TZ2} (io), 25 GPIO14/~{XHOLD}/~{TZ3}/SCITXDB/MCLKXB (io), 26 GPIO15/~{XHOLDA}/~{TZ4}/SCIRXDB/MFSXB (io)
part B pins: 1 GPIO30/CANRXA/XA18 (io), 2 GPIO29/SCITXDA/XA19  (io), 27 GPIO16/SPISIMOA/CANTXB/~{TZ5} (io), 28 GPIO17/SPISOMIA/CANRXB/~{TZ6} (io), 62 GPIO18/SPICLKA/SCITXDB/CANRXA (io), 63 GPIO19/~{SPISTEA}/SCIRXDB/CANTXA (io), 64 GPIO20/EQEP1A/MDXA/CANTXB (io), 65 GPIO21/EQEP1B/MDRA/CANRXB (io), 66 GPIO22/EQEP1S/MCLKXA/SCITXDB (io), 67 GPIO23/EQEP1I/MFSXA/SCIRXDB (io), 68 GPIO24/ECAP1/EQEP2A/MDXB (io), 69 GPIO25/ECAP2/EQEP2B/MDRB (io), 72 GPIO26/ECAP3/EQEP2I/MCLKXB (io), 73 GPIO27/ECAP4/EQEP2S/MFSXB (io), 141 GPIO28/SCIRXDA/~{XZCS6} (io), 176 GPIO31/CANTXA/XA17 (io)
part C pins: 74 GPIO32/SDAA/EPWMSYNCI/~{ADCSOCAO} (io), 75 GPIO33/SCLA/EPWMSYNCO/~{ADCSOCBO} (io), 137 GPIO38/~{XWE0} (io), 142 GPIO34/ECAP1/XREADY (io), 145 GPIO36/SCIRXDA/~{XZCS0} (io), 148 GPIO35/SCITXDA/XR/~{W} (io), 150 GPIO37/ECAP2/~{XZCS7} (io), 151 GPIO40/XA0/~{XWE1} (io), 152 GPIO41/XA1 (io), 153 GPIO42/XA2 (io), 156 GPIO43/XA3 (io), 157 GPIO44/XA4 (io), 158 GPIO45/XA5 (io), 161 GPIO46/XA6 (io), 162 GPIO47/XA7 (io), 175 GPIO39/XA16 (io)
part D pins: 88 GPIO48/ECAP5/XD31 (io), 89 GPIO49/ECAP6/XD30 (io), 90 GPIO50/EQEP1A/XD29 (io), 91 GPIO51/EQEP1B/XD28 (io), 94 GPIO52/EQEP1S/XD27 (io), 95 GPIO53/EQEP1I/XD26 (io), 96 GPIO54/SPISIMOA/XD25 (io), 97 GPIO55/SPISOMIA/XD24 (io), 98 GPIO56/SPICLKA/XD23 (io), 99 GPIO57/~{SPISTEA}/XD22 (io), 100 GPIO58/MCLKRA/XD21 (io), 110 GPIO59/MFSRA/XD20 (io), 111 GPIO60/MCLKRB/XD19 (io), 112 GPIO61/MFSRB/XD18 (io), 113 GPIO62/SCIRXDC/XD17 (io), 114 GPIO63/SCITXDC/XD16 (io)
part E pins: 115 GPIO64/XD15 (io), 116 GPIO65/XD14 (io), 119 GPIO66/XD13 (io), 122 GPIO67/XD12 (io), 123 GPIO68/XD11 (io), 124 GPIO69/XD10 (io), 127 GPIO70/XD9 (io), 128 GPIO71/XD8 (io), 129 GPIO72/XD7 (io), 130 GPIO73/XD6 (io), 131 GPIO74/XD5 (io), 132 GPIO75/XD4 (io), 133 GPIO76/XD3 (io), 134 GPIO77/XD2 (io), 135 GPIO78/XD1 (io), 136 GPIO79/XD0 (io)
part F pins: 80 ~{XRS} (io) "Device Reset (in) and Watchdog Reset (out).", 102 X2, 104 X1, 105 XCLKIN (in), 138 XCLKOUT (out), 149 ~{XRD} (out), 163 GPIO80/XA8 (io), 164 GPIO81/XA9 (io), 165 GPIO82/XA10 (io), 168 GPIO83/XA11 (io), 169 GPIO84/XA12 (io), 172 GPIO85/XA13 (io), 173 GPIO86/XA14 (io), 174 GPIO87/XA15 (io)
part G pins: 35 ADCINA7, 36 ADCINA6, 37 ADCINA5, 38 ADCINA4, 39 ADCINA3, 40 ADCINA2, 41 ADCINA1, 42 ADCINA0, 43 ADCLO "Low Reference.", 46 ADCINB0, 47 ADCINB1, 48 ADCINB2, 49 ADCINB3, 50 ADCINB4, 51 ADCINB5, 52 ADCINB6, 53 ADCINB7, 54 ADCREFIN "External reference input.", 55 ADCREFM "Internal Reference Medium Output.", 56 ADCREFP "Internal Reference Positive Output.", 57 ADCRESEXT "ADC External Current Bias Resistor. Connect a 22KOhms resistor to analog ground."
part H pins: 3 VSS (power), 4 VDD (power), 8 VSS (power), 9 VDDIO (power), 14 VSS (power), 15 VDD (power), 22 VSS (power), 23 VDD (power), 29 VDD (power), 30 VSS (power), 31 VDD1A18 (power), 32 VSS1AGND (power), 33 VSSA2 (power), 34 VDDA2 (power), 44 VSSAIO (power), 45 VDDAIO (power), 58 VSS2AGND (power), 59 VDD2A18 (power), 60 VSS (power), 61 VDD (power), 70 VSS (power), 71 VDDIO (power), 83 VSS (power), 84 VDD3VFL (power), 92 VSS (power), 93 VDDIO (power), 101 VDD (power), 103 VSS (power), 106 VSS (power), 107 VDDIO (power), 108 VSS (power), 109 VDD (power), 117 VDD (power), 118 VSS (power), 120 VSS (power), 121 VDDIO (power), 125 VSS (power), 126 VDD (power), 139 VDD (power), 140 VSS (power), 143 VDDIO (power), 144 VSS (power), 146 VDD (power), 147 VSS (power), 154 VDD (power), 155 VSS (power), 159 VDDIO (power), 160 VSS (power), 166 VSS (power), 167 VDD (power), 170 VDDIO (power), 171 VSS (power), 177 PowerPAD (power)
part I pins: 76 TDI (in) "JTAG Test Data Input.", 77 TDO (out) "JTAG Scan Out - Test Data Output.", 78 ~{TRST} (in), 79 TMS (in) "JTAG Test Mode Select.", 81 TEST1 (io), 82 TEST2 (io), 85 EMU0 (io), 86 EMU1 (io), 87 TCK (in) "JTAG Test Clock."


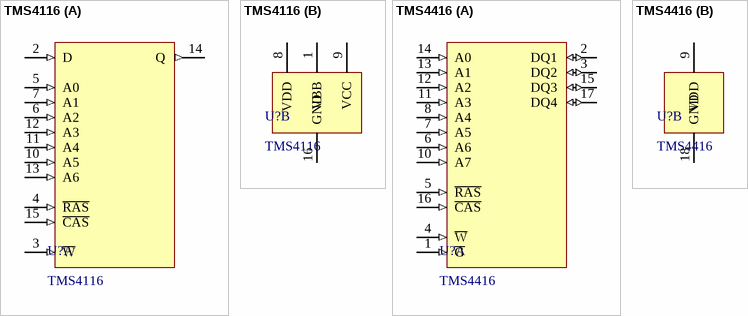
[diagram p18: symbols TMS4116 to TMS4416]

## TMS4116
designator U?
16,348 bit Dynamic RAM
footprint PDIP16
part A pins: 2 D (in), 3 ~{W} (in), 4 ~{RAS} (in), 5 A0 (in), 6 A2 (in), 7 A1 (in), 10 A5 (in), 11 A4 (in), 12 A3 (in), 13 A6 (in), 14 Q (out), 15 ~{CAS} (in)
part B pins: 1 VBB (power), 8 VDD (power), 9 VCC (power), 16 GND (power)

## TMS4416
designator U?
16,348 Word by 4-bit Dynamic RAM
footprint PDIP18
part A pins: 1 ~{G} (in), 2 DQ1 (io), 3 DQ2 (io), 4 ~{W} (in), 5 ~{RAS} (in), 6 A6 (in), 7 A5 (in), 8 A4 (in), 10 A7 (in), 11 A3 (in), 12 A2 (in), 13 A1 (in), 14 A0 (in), 15 DQ3 (io), 16 ~{CAS} (in), 17 DQ4 (io)
part B pins: 9 VDD (power), 18 GND (power)


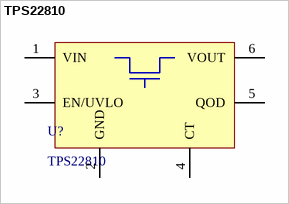
[diagram p19: symbol TPS22810]

## TPS22810
designator U?
79-mΩ On-Resistance Load Switch With Thermal Protection
footprint TPS22810 (DBV)
pins: 1 VIN (power), 2 GND (power), 3 EN/UVLO, 4 CT, 5 QOD (oc), 6 VOUT (power)


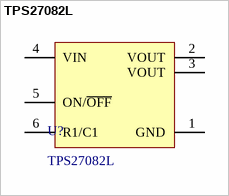
[diagram p20: symbol TPS27082L]

## TPS27082L
designator U?
PFET Load Switch 1.2V to 8V, 3A.
footprint TPS27082L
pins: 1 GND, 2 VOUT, 3 VOUT, 4 VIN, 5 ON/~{OFF}, 6 R1/C1


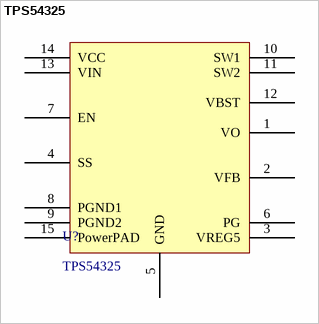
[diagram p21: symbol TPS54325]